# Altium schematic symbol library texas.SCHLIB: 169 symbols (part 3 of 5)
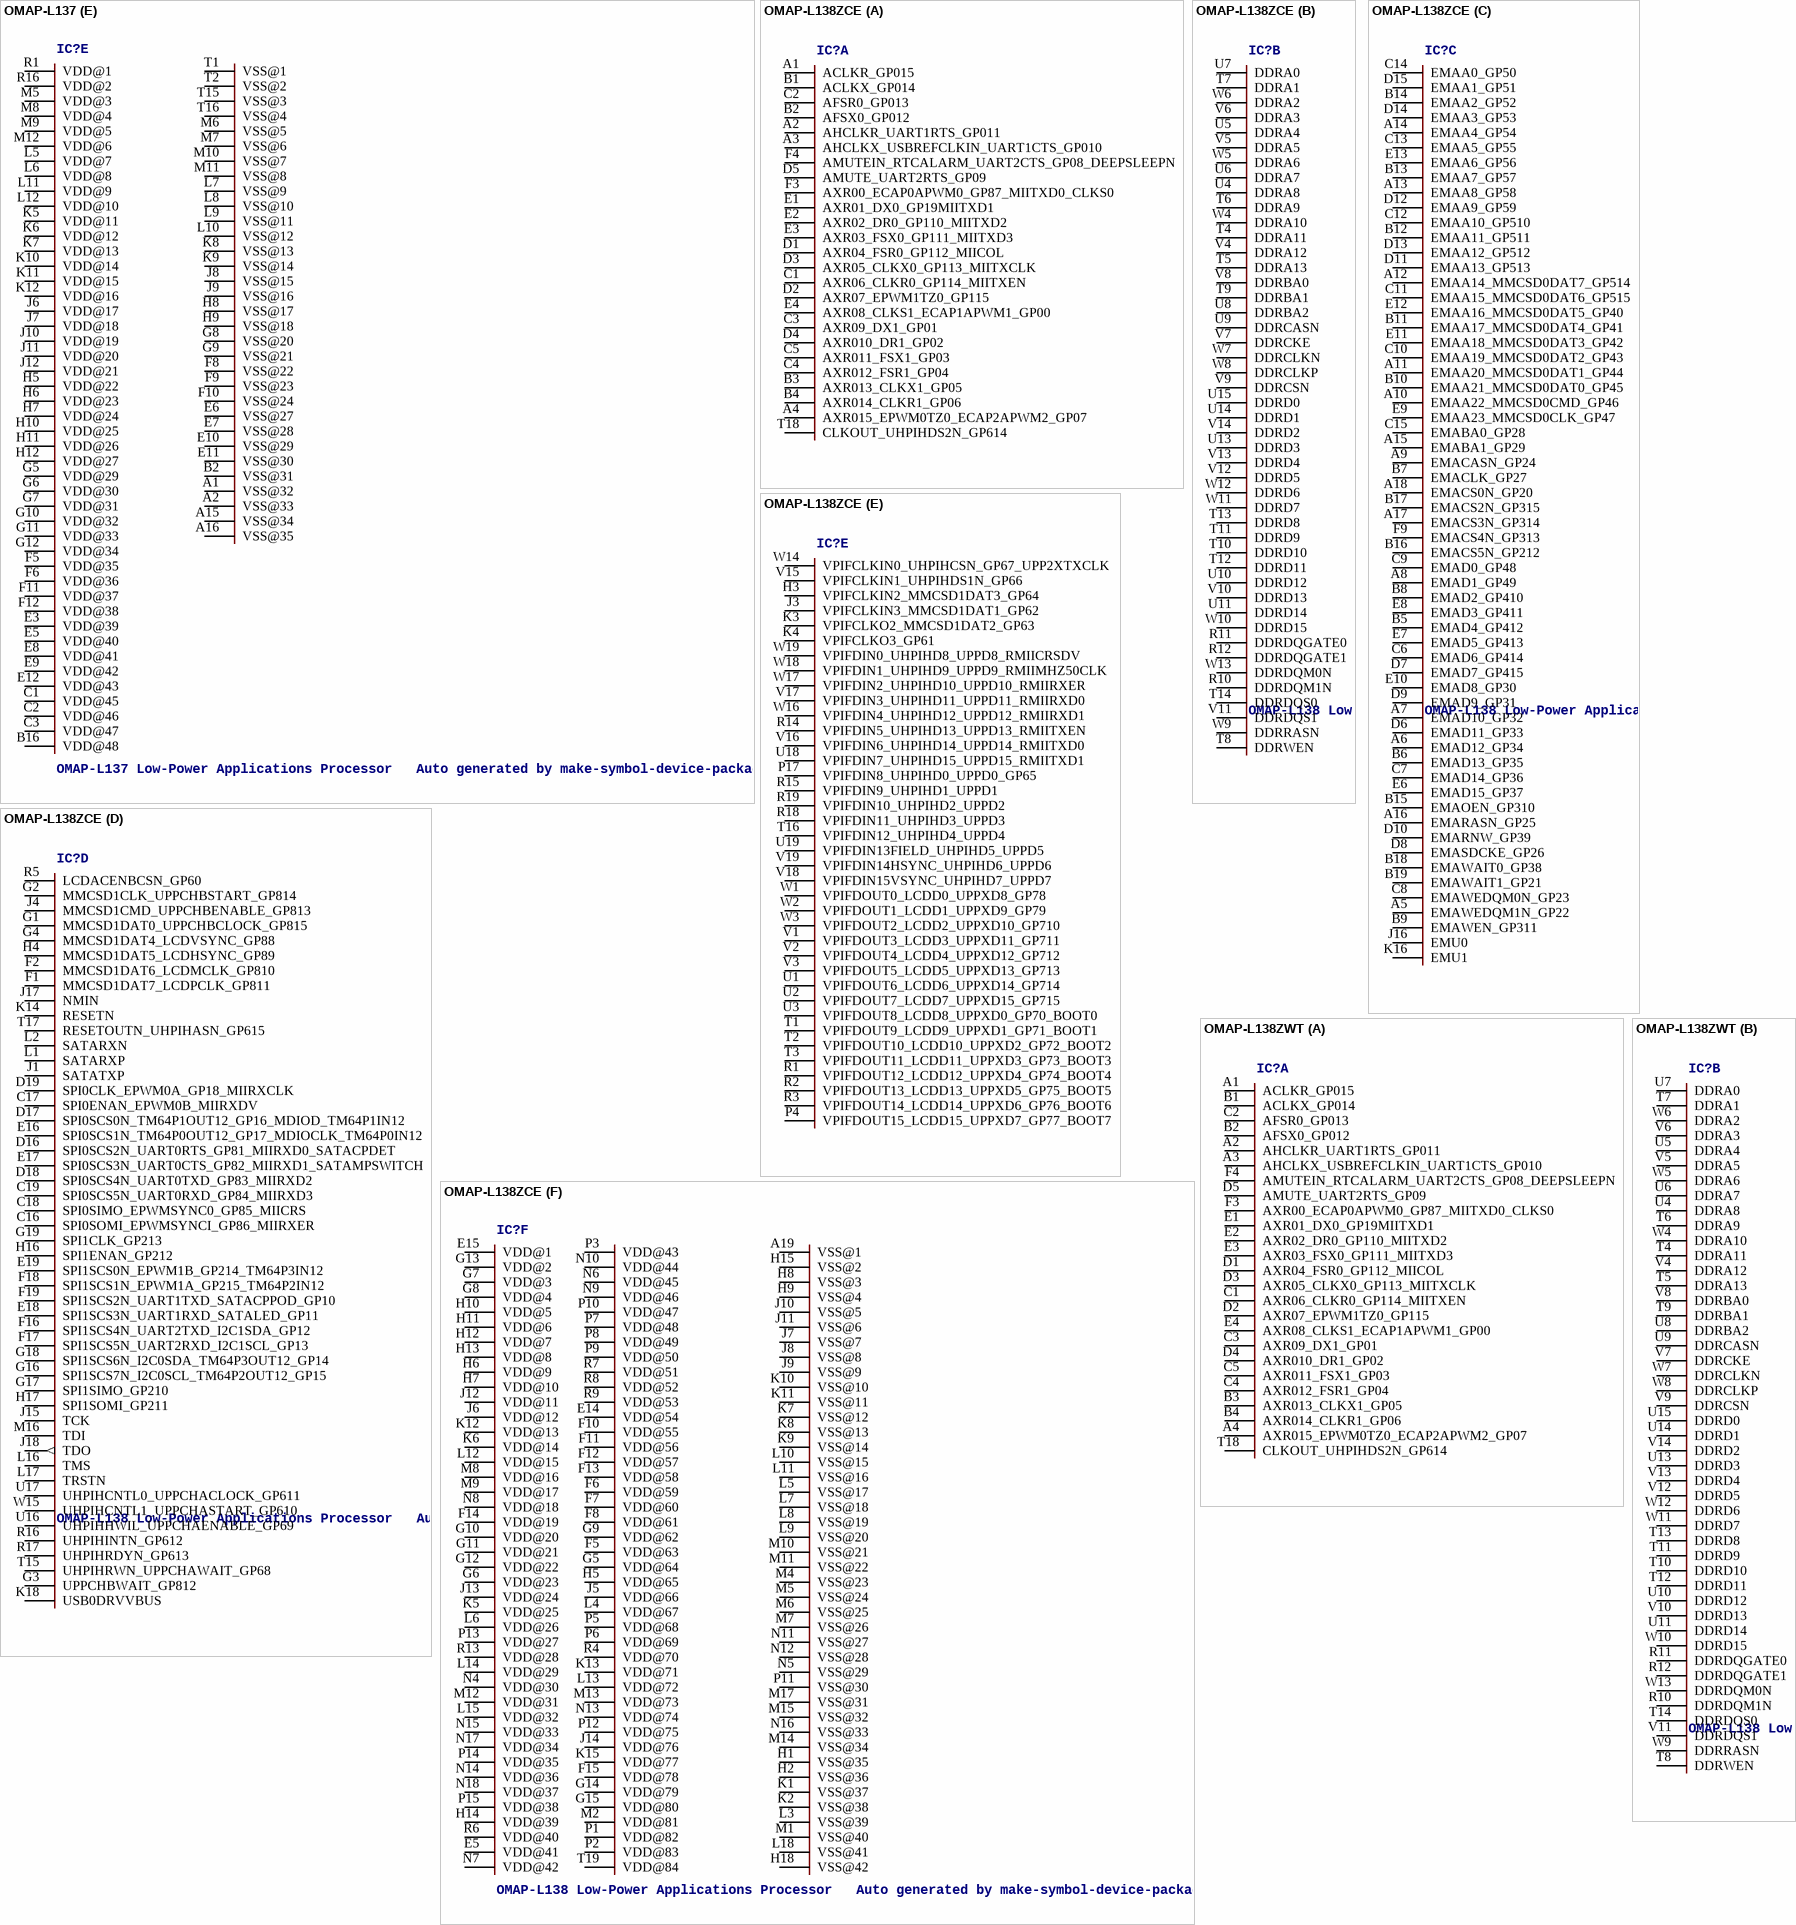
[diagram p33: symbols OMAP-L137 to OMAP-L138ZWT]

## OMAP-L138ZCE
designator IC?, comment OMAP-L138 Low-Power Applications Processor   Auto generated by make-symbol-device-package-bsdl.ulp Rev. 30 Source: sprm377a.bsm http://focus.ti.com/lit/ds/symlink/omap-l138.pdf Connect-List generated from OMAPL138ZCE.DEV Variant '' with connect-device-split-symbol-03.ulp
OC_FARNELL: unknown; OC_NEWARK: unknown
footprint ZCE_S-PBGA-N361
part A pins: A1 ACLKR_GP015, A2 AHCLKR_UART1RTS_GP011, A3 AHCLKX_USBREFCLKIN_UART1CTS_GP010, A4 AXR015_EPWM0TZ0_ECAP2APWM2_GP07, B1 ACLKX_GP014, B2 AFSX0_GP012, B3 AXR013_CLKX1_GP05, B4 AXR014_CLKR1_GP06, C1 AXR06_CLKR0_GP114_MIITXEN, C2 AFSR0_GP013, C3 AXR09_DX1_GP01, C4 AXR012_FSR1_GP04, C5 AXR011_FSX1_GP03, D1 AXR04_FSR0_GP112_MIICOL, D2 AXR07_EPWM1TZ0_GP115, D3 AXR05_CLKX0_GP113_MIITXCLK, D4 AXR010_DR1_GP02, D5 AMUTE_UART2RTS_GP09, E1 AXR01_DX0_GP19MIITXD1, E2 AXR02_DR0_GP110_MIITXD2, E3 AXR03_FSX0_GP111_MIITXD3, E4 AXR08_CLKS1_ECAP1APWM1_GP00, F3 AXR00_ECAP0APWM0_GP87_MIITXD0_CLKS0, F4 AMUTEIN_RTCALARM_UART2CTS_GP08_DEEPSLEEPN, T18 CLKOUT_UHPIHDS2N_GP614
part B pins: R10 DDRDQM1N, R11 DDRDQGATE0, R12 DDRDQGATE1, T4 DDRA11, T5 DDRA13, T6 DDRA9, T7 DDRA1, T8 DDRWEN, T9 DDRBA1, T10 DDRD10, T11 DDRD9, T12 DDRD11, T13 DDRD8, T14 DDRDQS0, U4 DDRA8, U5 DDRA4, U6 DDRA7, U7 DDRA0, U8 DDRBA2, U9 DDRCASN, U10 DDRD12, U11 DDRD14, U13 DDRD3, U14 DDRD1, U15 DDRD0, V4 DDRA12, V5 DDRA5, V6 DDRA3, V7 DDRCKE, V8 DDRBA0, V9 DDRCSN, V10 DDRD13, V11 DDRDQS1, V12 DDRD5, V13 DDRD4, V14 DDRD2, W4 DDRA10, W5 DDRA6, W6 DDRA2, W7 DDRCLKN, W8 DDRCLKP, W9 DDRRASN, W10 DDRD15, W11 DDRD7, W12 DDRD6, W13 DDRDQM0N
part C pins: A5 EMAWEDQM1N_GP22, A6 EMAD12_GP34, A7 EMAD10_GP32, A8 EMAD1_GP49, A9 EMACASN_GP24, A10 EMAA22_MMCSD0CMD_GP46, A11 EMAA20_MMCSD0DAT1_GP44, A12 EMAA14_MMCSD0DAT7_GP514, A13 EMAA8_GP58, A14 EMAA4_GP54, A15 EMABA1_GP29, A16 EMARASN_GP25, A17 EMACS3N_GP314, A18 EMACS0N_GP20, B5 EMAD4_GP412, B6 EMAD13_GP35, B7 EMACLK_GP27, B8 EMAD2_GP410, B9 EMAWEN_GP311, B10 EMAA21_MMCSD0DAT0_GP45, B11 EMAA17_MMCSD0DAT4_GP41, B12 EMAA11_GP511, B13 EMAA7_GP57, B14 EMAA2_GP52, B15 EMAOEN_GP310, B16 EMACS5N_GP212, B17 EMACS2N_GP315, B18 EMAWAIT0_GP38, B19 EMAWAIT1_GP21, C6 EMAD6_GP414, C7 EMAD14_GP36, C8 EMAWEDQM0N_GP23, C9 EMAD0_GP48, C10 EMAA19_MMCSD0DAT2_GP43, C11 EMAA15_MMCSD0DAT6_GP515, C12 EMAA10_GP510, C13 EMAA5_GP55, C14 EMAA0_GP50, C15 EMABA0_GP28, D6 EMAD11_GP33, D7 EMAD7_GP415, D8 EMASDCKE_GP26, D9 EMAD9_GP31, D10 EMARNW_GP39, D11 EMAA13_GP513, D12 EMAA9_GP59, D13 EMAA12_GP512, D14 EMAA3_GP53, D15 EMAA1_GP51, E6 EMAD15_GP37, E7 EMAD5_GP413, E8 EMAD3_GP411, E9 EMAA23_MMCSD0CLK_GP47, E10 EMAD8_GP30, E11 EMAA18_MMCSD0DAT3_GP42, E12 EMAA16_MMCSD0DAT5_GP40, E13 EMAA6_GP56, F9 EMACS4N_GP313, J16 EMU0, K16 EMU1
part D pins: C16 SPI0SOMI_EPWMSYNCI_GP86_MIIRXER, C17 SPI0ENAN_EPWM0B_MIIRXDV, C18 SPI0SIMO_EPWMSYNC0_GP85_MIICRS, C19 SPI0SCS5N_UART0RXD_GP84_MIIRXD3, D16 SPI0SCS2N_UART0RTS_GP81_MIIRXD0_SATACPDET, D17 SPI0SCS0N_TM64P1OUT12_GP16_MDIOD_TM64P1IN12, D18 SPI0SCS4N_UART0TXD_GP83_MIIRXD2, D19 SPI0CLK_EPWM0A_GP18_MIIRXCLK, E16 SPI0SCS1N_TM64P0OUT12_GP17_MDIOCLK_TM64P0IN12, E17 SPI0SCS3N_UART0CTS_GP82_MIIRXD1_SATAMPSWITCH, E18 SPI1SCS3N_UART1RXD_SATALED_GP11, E19 SPI1SCS0N_EPWM1B_GP214_TM64P3IN12, F1 MMCSD1DAT7_LCDPCLK_GP811, F2 MMCSD1DAT6_LCDMCLK_GP810, F16 SPI1SCS4N_UART2TXD_I2C1SDA_GP12, F17 SPI1SCS5N_UART2RXD_I2C1SCL_GP13, F18 SPI1SCS1N_EPWM1A_GP215_TM64P2IN12, F19 SPI1SCS2N_UART1TXD_SATACPPOD_GP10, G1 MMCSD1DAT0_UPPCHBCLOCK_GP815, G2 MMCSD1CLK_UPPCHBSTART_GP814, G3 UPPCHBWAIT_GP812, G4 MMCSD1DAT4_LCDVSYNC_GP88, G16 SPI1SCS7N_I2C0SCL_TM64P2OUT12_GP15, G17 SPI1SIMO_GP210, G18 SPI1SCS6N_I2C0SDA_TM64P3OUT12_GP14, G19 SPI1CLK_GP213, H4 MMCSD1DAT5_LCDHSYNC_GP89, H16 SPI1ENAN_GP212, H17 SPI1SOMI_GP211, J1 SATATXP (hiz), J4 MMCSD1CMD_UPPCHBENABLE_GP813, J15 TCK, J17 NMIN, J18 TDO (out), K14 RESETN, K18 USB0DRVVBUS, L1 SATARXP, L2 SATARXN, L16 TMS, L17 TRSTN, M16 TDI, R5 LCDACENBCSN_GP60, R16 UHPIHINTN_GP612, R17 UHPIHRDYN_GP613, T15 UHPIHRWN_UPPCHAWAIT_GP68, T17 RESETOUTN_UHPIHASN_GP615, U16 UHPIHHWIL_UPPCHAENABLE_GP69, U17 UHPIHCNTL0_UPPCHACLOCK_GP611, W15 UHPIHCNTL1_UPPCHASTART_GP610
part E pins: H3 VPIFCLKIN2_MMCSD1DAT3_GP64, J3 VPIFCLKIN3_MMCSD1DAT1_GP62, K3 VPIFCLKO2_MMCSD1DAT2_GP63, K4 VPIFCLKO3_GP61, P4 VPIFDOUT15_LCDD15_UPPXD7_GP77_BOOT7, P17 VPIFDIN8_UHPIHD0_UPPD0_GP65, R1 VPIFDOUT12_LCDD12_UPPXD4_GP74_BOOT4, R2 VPIFDOUT13_LCDD13_UPPXD5_GP75_BOOT5, R3 VPIFDOUT14_LCDD14_UPPXD6_GP76_BOOT6, R14 VPIFDIN5_UHPIHD13_UPPD13_RMIITXEN, R15 VPIFDIN9_UHPIHD1_UPPD1, R18 VPIFDIN11_UHPIHD3_UPPD3, R19 VPIFDIN10_UHPIHD2_UPPD2, T1 VPIFDOUT9_LCDD9_UPPXD1_GP71_BOOT1, T2 VPIFDOUT10_LCDD10_UPPXD2_GP72_BOOT2, T3 VPIFDOUT11_LCDD11_UPPXD3_GP73_BOOT3, T16 VPIFDIN12_UHPIHD4_UPPD4, U1 VPIFDOUT6_LCDD6_UPPXD14_GP714, U2 VPIFDOUT7_LCDD7_UPPXD15_GP715, U3 VPIFDOUT8_LCDD8_UPPXD0_GP70_BOOT0, U18 VPIFDIN7_UHPIHD15_UPPD15_RMIITXD1, U19 VPIFDIN13FIELD_UHPIHD5_UPPD5, V1 VPIFDOUT3_LCDD3_UPPXD11_GP711, V2 VPIFDOUT4_LCDD4_UPPXD12_GP712, V3 VPIFDOUT5_LCDD5_UPPXD13_GP713, V15 VPIFCLKIN1_UHPIHDS1N_GP66, V16 VPIFDIN6_UHPIHD14_UPPD14_RMIITXD0, V17 VPIFDIN3_UHPIHD11_UPPD11_RMIIRXD0, V18 VPIFDIN15VSYNC_UHPIHD7_UPPD7, V19 VPIFDIN14HSYNC_UHPIHD6_UPPD6, W1 VPIFDOUT0_LCDD0_UPPXD8_GP78, W2 VPIFDOUT1_LCDD1_UPPXD9_GP79, W3 VPIFDOUT2_LCDD2_UPPXD10_GP710, W14 VPIFCLKIN0_UHPIHCSN_GP67_UPP2XTXCLK, W16 VPIFDIN4_UHPIHD12_UPPD12_RMIIRXD1, W17 VPIFDIN2_UHPIHD10_UPPD10_RMIIRXER, W18 VPIFDIN1_UHPIHD9_UPPD9_RMIIMHZ50CLK, W19 VPIFDIN0_UHPIHD8_UPPD8_RMIICRSDV
part F pins: A19 VSS@1 (power), E5 VDD@41 (power), E14 VDD@54 (power), E15 VDD@1 (power), F5 VDD@63 (power), F6 VDD@59 (power), F7 VDD@60 (power), F8 VDD@61 (power), F10 VDD@55 (power), F11 VDD@56 (power), F12 VDD@57 (power), F13 VDD@58 (power), F14 VDD@19 (power), F15 VDD@78 (power), G5 VDD@64 (power), G6 VDD@23 (power), G7 VDD@3 (power), G8 VDD@4 (power), G9 VDD@62 (power), G10 VDD@20 (power), G11 VDD@21 (power), G12 VDD@22 (power), G13 VDD@2 (power), G14 VDD@79 (power), G15 VDD@80 (power), H1 VSS@35 (power), H2 VSS@36 (power), H5 VDD@65 (power), H6 VDD@9 (power), H7 VDD@10 (power), H8 VSS@3 (power), H9 VSS@4 (power), H10 VDD@5 (power), H11 VDD@6 (power), H12 VDD@7 (power), H13 VDD@8 (power), H14 VDD@39 (power), H15 VSS@2 (power), H18 VSS@42 (power), J5 VDD@66 (power), J6 VDD@12 (power), J7 VSS@7 (power), J8 VSS@8 (power), J9 VSS@9 (power), J10 VSS@5 (power), J11 VSS@6 (power), J12 VDD@11 (power), J13 VDD@24 (power), J14 VDD@76 (power), K1 VSS@37 (power), K2 VSS@38 (power), K5 VDD@25 (power), K6 VDD@14 (power), K7 VSS@12 (power), K8 VSS@13 (power), K9 VSS@14 (power), K10 VSS@10 (power), K11 VSS@11 (power), K12 VDD@13 (power), K13 VDD@71 (power), K15 VDD@77 (power), L3 VSS@39 (power), L4 VDD@67 (power), L5 VSS@17 (power), L6 VDD@26 (power), L7 VSS@18 (power), L8 VSS@19 (power), L9 VSS@20 (power), L10 VSS@15 (power), L11 VSS@16 (power), L12 VDD@15 (power), L13 VDD@72 (power), L14 VDD@29 (power), L15 VDD@32 (power), L18 VSS@41 (power), M1 VSS@40 (power), M2 VDD@81 (power), M4 VSS@23 (power), M5 VSS@24 (power), M6 VSS@25 (power), M7 VSS@26 (power), M8 VDD@16 (power), M9 VDD@17 (power), M10 VSS@21 (power), M11 VSS@22 (power), M12 VDD@31 (power), M13 VDD@73 (power), M14 VSS@34 (power), M15 VSS@32 (power), M17 VSS@31 (power), N4 VDD@30 (power), N5 VSS@29 (power), N6 VDD@45 (power), N7 VDD@42 (power), N8 VDD@18 (power), N9 VDD@46 (power), N10 VDD@44 (power), N11 VSS@27 (power), N12 VSS@28 (power), N13 VDD@74 (power), N14 VDD@36 (power), N15 VDD@33 (power), N16 VSS@33 (power), N17 VDD@34 (power), N18 VDD@37 (power), P1 VDD@82 (power), P2 VDD@83 (power), P3 VDD@43 (power), P5 VDD@68 (power), P6 VDD@69 (power), P7 VDD@48 (power), P8 VDD@49 (power), P9 VDD@50 (power), P10 VDD@47 (power), P11 VSS@30 (power), P12 VDD@75 (power), P13 VDD@27 (power), P14 VDD@35 (power), P15 VDD@38 (power), R4 VDD@70 (power), R6 VDD@40 (power), R7 VDD@51 (power), R8 VDD@52 (power), R9 VDD@53 (power), R13 VDD@28 (power), T19 VDD@84 (power)

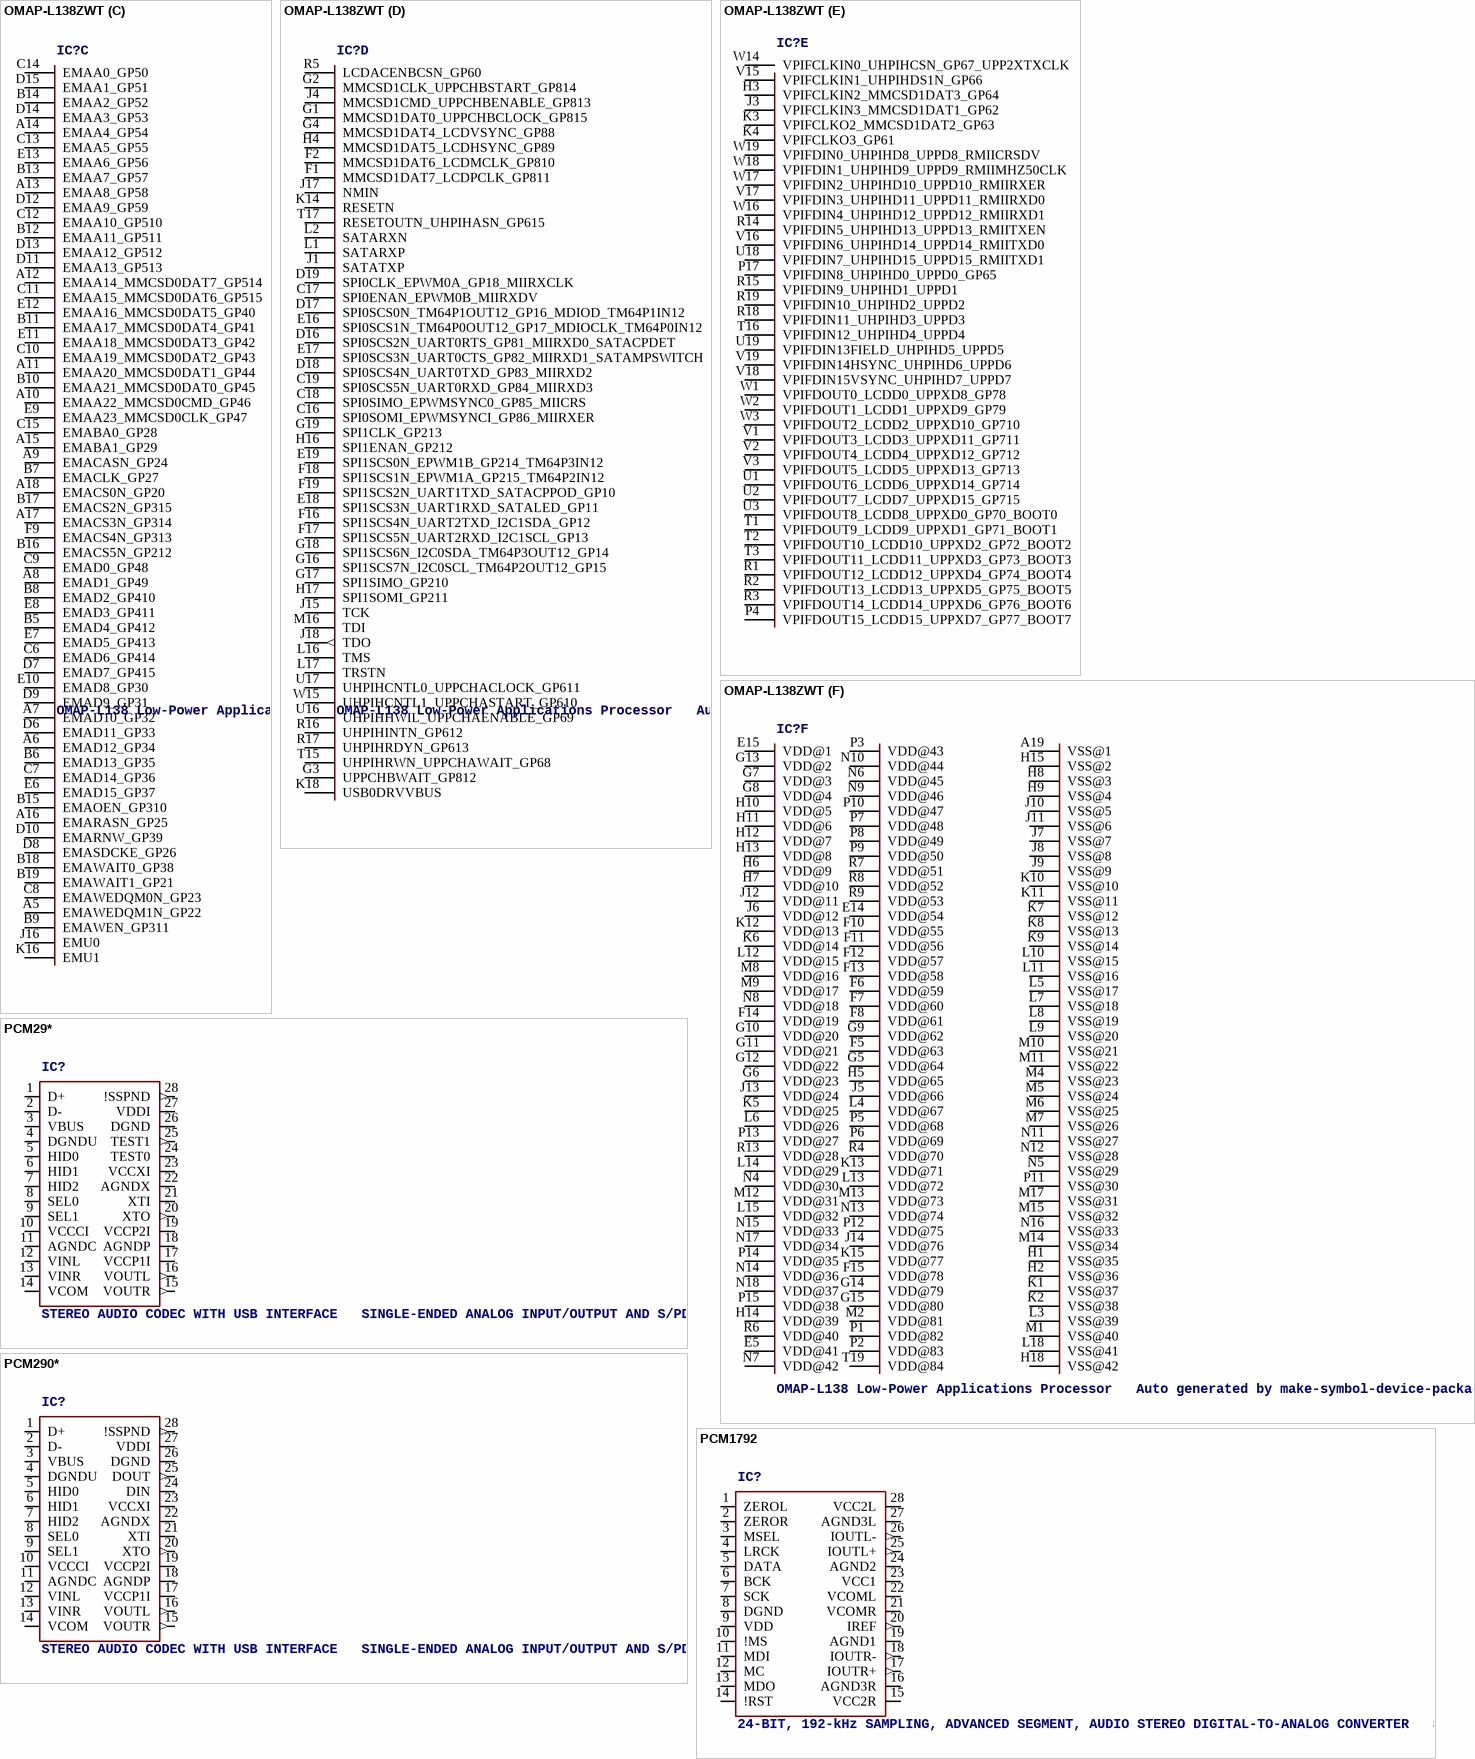
[diagram p16: symbols OMAP-L138ZWT to PCM1792]

## OMAP-L138ZWT
designator IC?, comment OMAP-L138 Low-Power Applications Processor   Auto generated by make-symbol-device-package-bsdl.ulp Rev. 30 Source: sprm376a.bsm http://focus.ti.com/lit/ds/symlink/omap-l138.pdf Connect-List generated from OMAPL138ZWT.DEV Variant '' with connect-device-split-symbol-03.ulp
OC_FARNELL: unknown; OC_NEWARK: unknown
footprint ZWT_S-PBGA-N361
part A pins: A1 ACLKR_GP015, A2 AHCLKR_UART1RTS_GP011, A3 AHCLKX_USBREFCLKIN_UART1CTS_GP010, A4 AXR015_EPWM0TZ0_ECAP2APWM2_GP07, B1 ACLKX_GP014, B2 AFSX0_GP012, B3 AXR013_CLKX1_GP05, B4 AXR014_CLKR1_GP06, C1 AXR06_CLKR0_GP114_MIITXEN, C2 AFSR0_GP013, C3 AXR09_DX1_GP01, C4 AXR012_FSR1_GP04, C5 AXR011_FSX1_GP03, D1 AXR04_FSR0_GP112_MIICOL, D2 AXR07_EPWM1TZ0_GP115, D3 AXR05_CLKX0_GP113_MIITXCLK, D4 AXR010_DR1_GP02, D5 AMUTE_UART2RTS_GP09, E1 AXR01_DX0_GP19MIITXD1, E2 AXR02_DR0_GP110_MIITXD2, E3 AXR03_FSX0_GP111_MIITXD3, E4 AXR08_CLKS1_ECAP1APWM1_GP00, F3 AXR00_ECAP0APWM0_GP87_MIITXD0_CLKS0, F4 AMUTEIN_RTCALARM_UART2CTS_GP08_DEEPSLEEPN, T18 CLKOUT_UHPIHDS2N_GP614
part B pins: R10 DDRDQM1N, R11 DDRDQGATE0, R12 DDRDQGATE1, T4 DDRA11, T5 DDRA13, T6 DDRA9, T7 DDRA1, T8 DDRWEN, T9 DDRBA1, T10 DDRD10, T11 DDRD9, T12 DDRD11, T13 DDRD8, T14 DDRDQS0, U4 DDRA8, U5 DDRA4, U6 DDRA7, U7 DDRA0, U8 DDRBA2, U9 DDRCASN, U10 DDRD12, U11 DDRD14, U13 DDRD3, U14 DDRD1, U15 DDRD0, V4 DDRA12, V5 DDRA5, V6 DDRA3, V7 DDRCKE, V8 DDRBA0, V9 DDRCSN, V10 DDRD13, V11 DDRDQS1, V12 DDRD5, V13 DDRD4, V14 DDRD2, W4 DDRA10, W5 DDRA6, W6 DDRA2, W7 DDRCLKN, W8 DDRCLKP, W9 DDRRASN, W10 DDRD15, W11 DDRD7, W12 DDRD6, W13 DDRDQM0N
part C pins: A5 EMAWEDQM1N_GP22, A6 EMAD12_GP34, A7 EMAD10_GP32, A8 EMAD1_GP49, A9 EMACASN_GP24, A10 EMAA22_MMCSD0CMD_GP46, A11 EMAA20_MMCSD0DAT1_GP44, A12 EMAA14_MMCSD0DAT7_GP514, A13 EMAA8_GP58, A14 EMAA4_GP54, A15 EMABA1_GP29, A16 EMARASN_GP25, A17 EMACS3N_GP314, A18 EMACS0N_GP20, B5 EMAD4_GP412, B6 EMAD13_GP35, B7 EMACLK_GP27, B8 EMAD2_GP410, B9 EMAWEN_GP311, B10 EMAA21_MMCSD0DAT0_GP45, B11 EMAA17_MMCSD0DAT4_GP41, B12 EMAA11_GP511, B13 EMAA7_GP57, B14 EMAA2_GP52, B15 EMAOEN_GP310, B16 EMACS5N_GP212, B17 EMACS2N_GP315, B18 EMAWAIT0_GP38, B19 EMAWAIT1_GP21, C6 EMAD6_GP414, C7 EMAD14_GP36, C8 EMAWEDQM0N_GP23, C9 EMAD0_GP48, C10 EMAA19_MMCSD0DAT2_GP43, C11 EMAA15_MMCSD0DAT6_GP515, C12 EMAA10_GP510, C13 EMAA5_GP55, C14 EMAA0_GP50, C15 EMABA0_GP28, D6 EMAD11_GP33, D7 EMAD7_GP415, D8 EMASDCKE_GP26, D9 EMAD9_GP31, D10 EMARNW_GP39, D11 EMAA13_GP513, D12 EMAA9_GP59, D13 EMAA12_GP512, D14 EMAA3_GP53, D15 EMAA1_GP51, E6 EMAD15_GP37, E7 EMAD5_GP413, E8 EMAD3_GP411, E9 EMAA23_MMCSD0CLK_GP47, E10 EMAD8_GP30, E11 EMAA18_MMCSD0DAT3_GP42, E12 EMAA16_MMCSD0DAT5_GP40, E13 EMAA6_GP56, F9 EMACS4N_GP313, J16 EMU0, K16 EMU1
part D pins: C16 SPI0SOMI_EPWMSYNCI_GP86_MIIRXER, C17 SPI0ENAN_EPWM0B_MIIRXDV, C18 SPI0SIMO_EPWMSYNC0_GP85_MIICRS, C19 SPI0SCS5N_UART0RXD_GP84_MIIRXD3, D16 SPI0SCS2N_UART0RTS_GP81_MIIRXD0_SATACPDET, D17 SPI0SCS0N_TM64P1OUT12_GP16_MDIOD_TM64P1IN12, D18 SPI0SCS4N_UART0TXD_GP83_MIIRXD2, D19 SPI0CLK_EPWM0A_GP18_MIIRXCLK, E16 SPI0SCS1N_TM64P0OUT12_GP17_MDIOCLK_TM64P0IN12, E17 SPI0SCS3N_UART0CTS_GP82_MIIRXD1_SATAMPSWITCH, E18 SPI1SCS3N_UART1RXD_SATALED_GP11, E19 SPI1SCS0N_EPWM1B_GP214_TM64P3IN12, F1 MMCSD1DAT7_LCDPCLK_GP811, F2 MMCSD1DAT6_LCDMCLK_GP810, F16 SPI1SCS4N_UART2TXD_I2C1SDA_GP12, F17 SPI1SCS5N_UART2RXD_I2C1SCL_GP13, F18 SPI1SCS1N_EPWM1A_GP215_TM64P2IN12, F19 SPI1SCS2N_UART1TXD_SATACPPOD_GP10, G1 MMCSD1DAT0_UPPCHBCLOCK_GP815, G2 MMCSD1CLK_UPPCHBSTART_GP814, G3 UPPCHBWAIT_GP812, G4 MMCSD1DAT4_LCDVSYNC_GP88, G16 SPI1SCS7N_I2C0SCL_TM64P2OUT12_GP15, G17 SPI1SIMO_GP210, G18 SPI1SCS6N_I2C0SDA_TM64P3OUT12_GP14, G19 SPI1CLK_GP213, H4 MMCSD1DAT5_LCDHSYNC_GP89, H16 SPI1ENAN_GP212, H17 SPI1SOMI_GP211, J1 SATATXP (hiz), J4 MMCSD1CMD_UPPCHBENABLE_GP813, J15 TCK, J17 NMIN, J18 TDO (out), K14 RESETN, K18 USB0DRVVBUS, L1 SATARXP, L2 SATARXN, L16 TMS, L17 TRSTN, M16 TDI, R5 LCDACENBCSN_GP60, R16 UHPIHINTN_GP612, R17 UHPIHRDYN_GP613, T15 UHPIHRWN_UPPCHAWAIT_GP68, T17 RESETOUTN_UHPIHASN_GP615, U16 UHPIHHWIL_UPPCHAENABLE_GP69, U17 UHPIHCNTL0_UPPCHACLOCK_GP611, W15 UHPIHCNTL1_UPPCHASTART_GP610
part E pins: H3 VPIFCLKIN2_MMCSD1DAT3_GP64, J3 VPIFCLKIN3_MMCSD1DAT1_GP62, K3 VPIFCLKO2_MMCSD1DAT2_GP63, K4 VPIFCLKO3_GP61, P4 VPIFDOUT15_LCDD15_UPPXD7_GP77_BOOT7, P17 VPIFDIN8_UHPIHD0_UPPD0_GP65, R1 VPIFDOUT12_LCDD12_UPPXD4_GP74_BOOT4, R2 VPIFDOUT13_LCDD13_UPPXD5_GP75_BOOT5, R3 VPIFDOUT14_LCDD14_UPPXD6_GP76_BOOT6, R14 VPIFDIN5_UHPIHD13_UPPD13_RMIITXEN, R15 VPIFDIN9_UHPIHD1_UPPD1, R18 VPIFDIN11_UHPIHD3_UPPD3, R19 VPIFDIN10_UHPIHD2_UPPD2, T1 VPIFDOUT9_LCDD9_UPPXD1_GP71_BOOT1, T2 VPIFDOUT10_LCDD10_UPPXD2_GP72_BOOT2, T3 VPIFDOUT11_LCDD11_UPPXD3_GP73_BOOT3, T16 VPIFDIN12_UHPIHD4_UPPD4, U1 VPIFDOUT6_LCDD6_UPPXD14_GP714, U2 VPIFDOUT7_LCDD7_UPPXD15_GP715, U3 VPIFDOUT8_LCDD8_UPPXD0_GP70_BOOT0, U18 VPIFDIN7_UHPIHD15_UPPD15_RMIITXD1, U19 VPIFDIN13FIELD_UHPIHD5_UPPD5, V1 VPIFDOUT3_LCDD3_UPPXD11_GP711, V2 VPIFDOUT4_LCDD4_UPPXD12_GP712, V3 VPIFDOUT5_LCDD5_UPPXD13_GP713, V15 VPIFCLKIN1_UHPIHDS1N_GP66, V16 VPIFDIN6_UHPIHD14_UPPD14_RMIITXD0, V17 VPIFDIN3_UHPIHD11_UPPD11_RMIIRXD0, V18 VPIFDIN15VSYNC_UHPIHD7_UPPD7, V19 VPIFDIN14HSYNC_UHPIHD6_UPPD6, W1 VPIFDOUT0_LCDD0_UPPXD8_GP78, W2 VPIFDOUT1_LCDD1_UPPXD9_GP79, W3 VPIFDOUT2_LCDD2_UPPXD10_GP710, W14 VPIFCLKIN0_UHPIHCSN_GP67_UPP2XTXCLK, W16 VPIFDIN4_UHPIHD12_UPPD12_RMIIRXD1, W17 VPIFDIN2_UHPIHD10_UPPD10_RMIIRXER, W18 VPIFDIN1_UHPIHD9_UPPD9_RMIIMHZ50CLK, W19 VPIFDIN0_UHPIHD8_UPPD8_RMIICRSDV
part F pins: A19 VSS@1 (power), E5 VDD@41 (power), E14 VDD@54 (power), E15 VDD@1 (power), F5 VDD@63 (power), F6 VDD@59 (power), F7 VDD@60 (power), F8 VDD@61 (power), F10 VDD@55 (power), F11 VDD@56 (power), F12 VDD@57 (power), F13 VDD@58 (power), F14 VDD@19 (power), F15 VDD@78 (power), G5 VDD@64 (power), G6 VDD@23 (power), G7 VDD@3 (power), G8 VDD@4 (power), G9 VDD@62 (power), G10 VDD@20 (power), G11 VDD@21 (power), G12 VDD@22 (power), G13 VDD@2 (power), G14 VDD@79 (power), G15 VDD@80 (power), H1 VSS@35 (power), H2 VSS@36 (power), H5 VDD@65 (power), H6 VDD@9 (power), H7 VDD@10 (power), H8 VSS@3 (power), H9 VSS@4 (power), H10 VDD@5 (power), H11 VDD@6 (power), H12 VDD@7 (power), H13 VDD@8 (power), H14 VDD@39 (power), H15 VSS@2 (power), H18 VSS@42 (power), J5 VDD@66 (power), J6 VDD@12 (power), J7 VSS@7 (power), J8 VSS@8 (power), J9 VSS@9 (power), J10 VSS@5 (power), J11 VSS@6 (power), J12 VDD@11 (power), J13 VDD@24 (power), J14 VDD@76 (power), K1 VSS@37 (power), K2 VSS@38 (power), K5 VDD@25 (power), K6 VDD@14 (power), K7 VSS@12 (power), K8 VSS@13 (power), K9 VSS@14 (power), K10 VSS@10 (power), K11 VSS@11 (power), K12 VDD@13 (power), K13 VDD@71 (power), K15 VDD@77 (power), L3 VSS@39 (power), L4 VDD@67 (power), L5 VSS@17 (power), L6 VDD@26 (power), L7 VSS@18 (power), L8 VSS@19 (power), L9 VSS@20 (power), L10 VSS@15 (power), L11 VSS@16 (power), L12 VDD@15 (power), L13 VDD@72 (power), L14 VDD@29 (power), L15 VDD@32 (power), L18 VSS@41 (power), M1 VSS@40 (power), M2 VDD@81 (power), M4 VSS@23 (power), M5 VSS@24 (power), M6 VSS@25 (power), M7 VSS@26 (power), M8 VDD@16 (power), M9 VDD@17 (power), M10 VSS@21 (power), M11 VSS@22 (power), M12 VDD@31 (power), M13 VDD@73 (power), M14 VSS@34 (power), M15 VSS@32 (power), M17 VSS@31 (power), N4 VDD@30 (power), N5 VSS@29 (power), N6 VDD@45 (power), N7 VDD@42 (power), N8 VDD@18 (power), N9 VDD@46 (power), N10 VDD@44 (power), N11 VSS@27 (power), N12 VSS@28 (power), N13 VDD@74 (power), N14 VDD@36 (power), N15 VDD@33 (power), N16 VSS@33 (power), N17 VDD@34 (power), N18 VDD@37 (power), P1 VDD@82 (power), P2 VDD@83 (power), P3 VDD@43 (power), P5 VDD@68 (power), P6 VDD@69 (power), P7 VDD@48 (power), P8 VDD@49 (power), P9 VDD@50 (power), P10 VDD@47 (power), P11 VSS@30 (power), P12 VDD@75 (power), P13 VDD@27 (power), P14 VDD@35 (power), P15 VDD@38 (power), R4 VDD@70 (power), R6 VDD@40 (power), R7 VDD@51 (power), R8 VDD@52 (power), R9 VDD@53 (power), R13 VDD@28 (power), T19 VDD@84 (power)

## PCM29*
designator IC?, comment STEREO AUDIO CODEC WITH USB INTERFACE   SINGLE-ENDED ANALOG INPUT/OUTPUT AND S/PDIF
MPN: PCM2900E; MPN: PCM2904DB; MF: TEXAS INSTRUMENTS; MF: TEXAS INSTRUMENT CONNECTORS; OC_FARNELL: 1207086; OC_NEWARK: 75C5376; OC_FARNELL: 1207091; OC_NEWARK: 75C5386
footprint SSOP28DB
pins: 1 D+, 2 D-, 3 VBUS (power), 4 DGNDU (power), 5 HID0, 6 HID1, 7 HID2, 8 SEL0, 9 SEL1, 10 VCCCI (power), 11 AGNDC (power), 12 VINL, 13 VINR, 14 VCOM (power), 15 VOUTR (out), 16 VOUTL (out), 17 VCCP1I, 18 AGNDP (power), 19 VCCP2I (power), 20 XTO (out), 21 XTI, 22 AGNDX (power), 23 VCCXI (power), 24 TEST0, 25 TEST1 (out), 26 DGND (power), 27 VDDI (power), 28 !SSPND (out)

## PCM290*
designator IC?, comment STEREO AUDIO CODEC WITH USB INTERFACE   SINGLE-ENDED ANALOG INPUT/OUTPUT AND S/PDIF
MPN: PCM2902E; MPN: PCM2906DB; MF: TEXAS INSTRUMENT CONNECTORS; OC_FARNELL: 1207089; OC_NEWARK: 75C5380; OC_FARNELL: unknown; OC_NEWARK: 83C7389
footprint SSOP28DB
pins: 1 D+, 2 D-, 3 VBUS (power), 4 DGNDU (power), 5 HID0, 6 HID1, 7 HID2, 8 SEL0, 9 SEL1, 10 VCCCI (power), 11 AGNDC (power), 12 VINL, 13 VINR, 14 VCOM (power), 15 VOUTR (out), 16 VOUTL (out), 17 VCCP1I, 18 AGNDP (power), 19 VCCP2I (power), 20 XTO (out), 21 XTI, 22 AGNDX (power), 23 VCCXI (power), 24 DIN, 25 DOUT (out), 26 DGND (power), 27 VDDI (power), 28 !SSPND (out)

## PCM1792
designator IC?, comment 24-BIT, 192-kHz SAMPLING, ADVANCED SEGMENT, AUDIO STEREO DIGITAL-TO-ANALOG CONVERTER   Source: http://focus.ti.com/lit/ds/symlink/pcm1792.pdf
MPN: PCM1792DB; MF: TEXAS INSTRUMENTS; OC_FARNELL: 1207081; OC_NEWARK: 61H5171
footprint DB_R-PDSO-G28
pins: 1 ZEROL, 2 ZEROR, 3 MSEL, 4 LRCK, 5 DATA, 6 BCK, 7 SCK, 8 DGND, 9 VDD, 10 !MS, 11 MDI, 12 MC, 13 MDO, 14 !RST, 15 VCC2R, 16 AGND3R, 17 IOUTR+ (out), 18 IOUTR- (out), 19 AGND1, 20 IREF (out), 21 VCOMR, 22 VCOML, 23 VCC1, 24 AGND2, 25 IOUTL+ (out), 26 IOUTL- (out), 27 AGND3L, 28 VCC2L

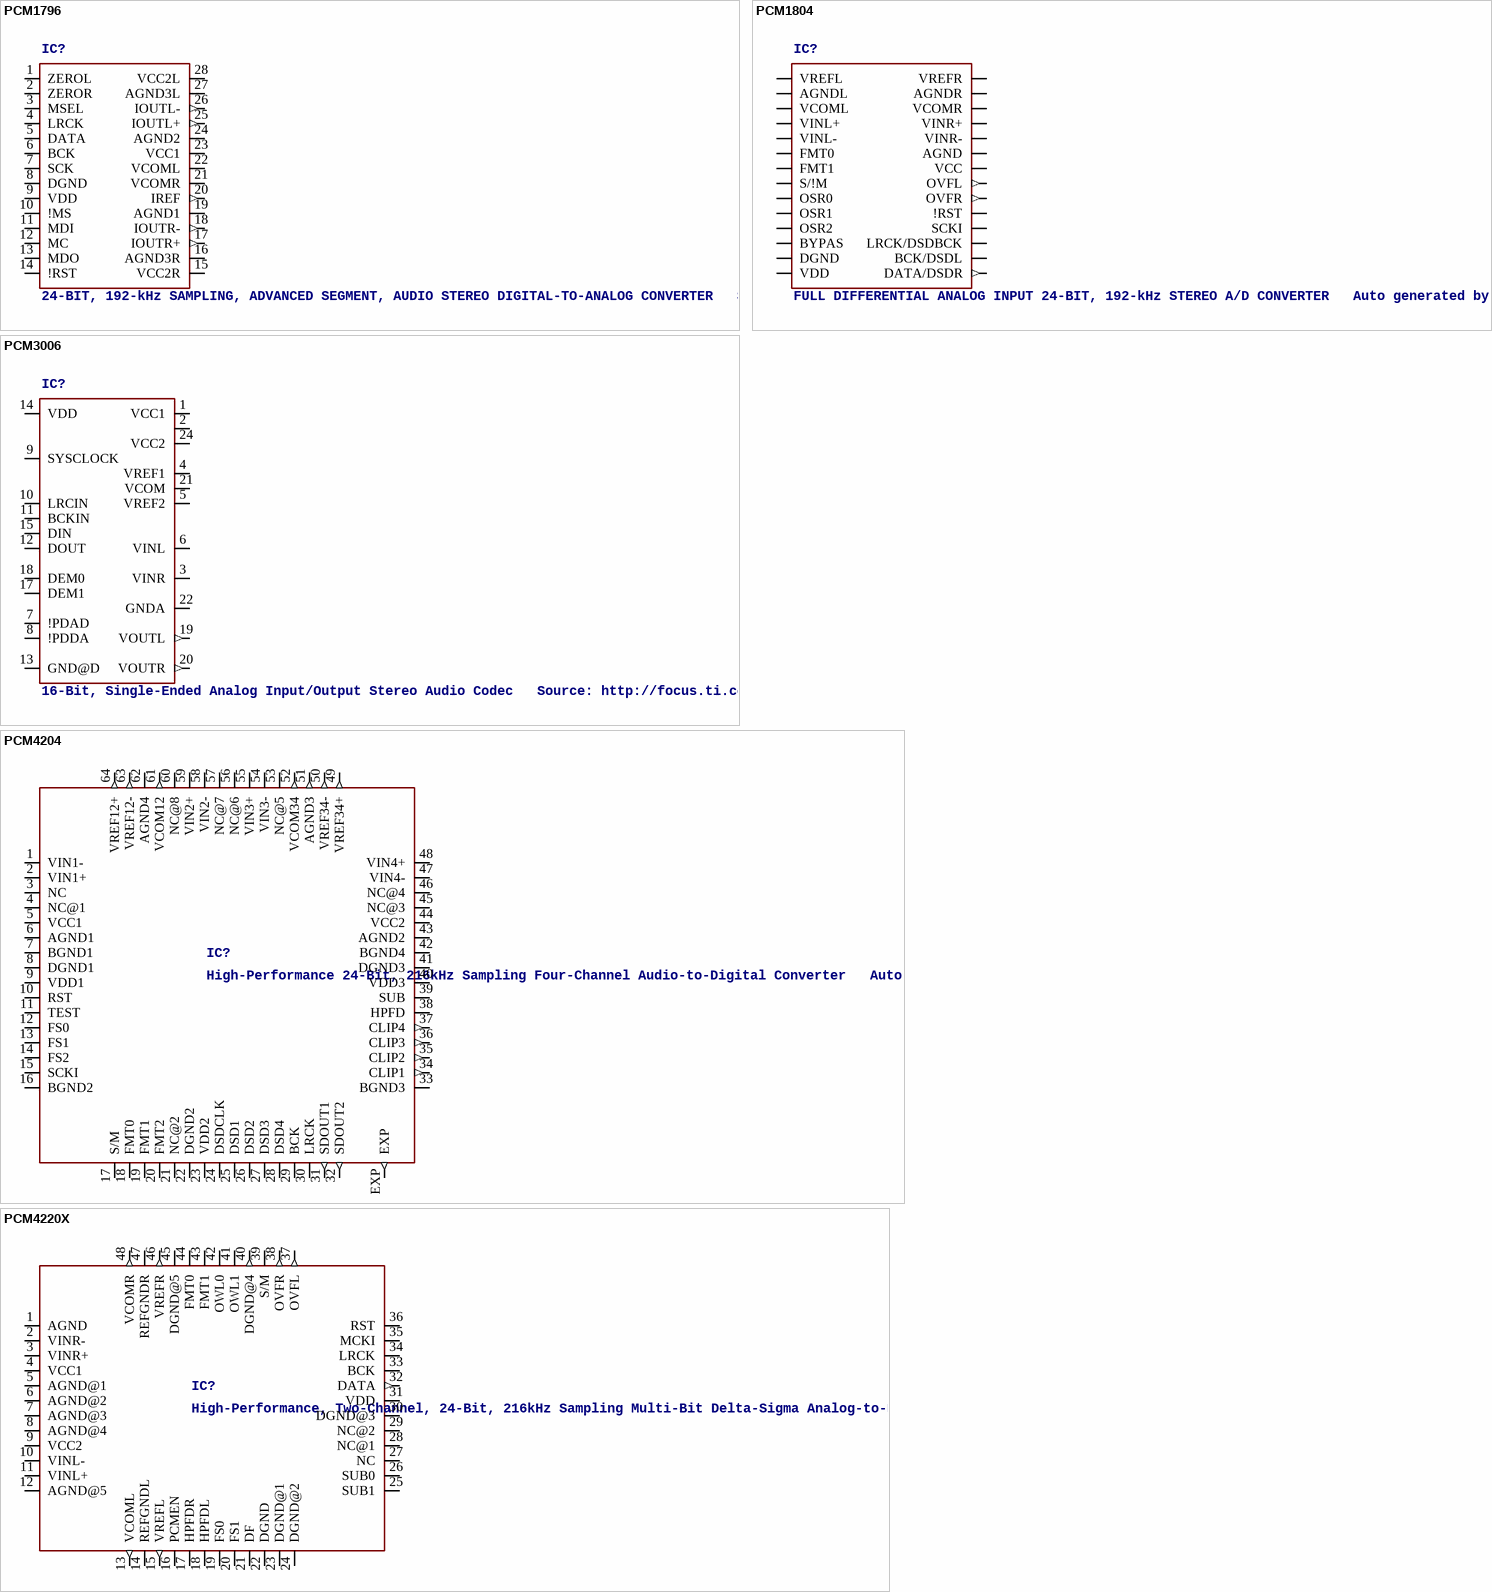
[diagram p17: symbols PCM1796 to PCM4220X]

## PCM1796
designator IC?, comment 24-BIT, 192-kHz SAMPLING, ADVANCED SEGMENT, AUDIO STEREO DIGITAL-TO-ANALOG CONVERTER   Source: http://focus.ti.com/lit/ds/symlink/pcm1796.pdf
MPN: PCM1796DB; MF: TEXAS INSTRUMENT CONNECTORS; OC_FARNELL: unknown; OC_NEWARK: 90H2298
footprint DB_R-PDSO-G28
pins: 1 ZEROL, 2 ZEROR, 3 MSEL, 4 LRCK, 5 DATA, 6 BCK, 7 SCK, 8 DGND, 9 VDD, 10 !MS, 11 MDI, 12 MC, 13 MDO, 14 !RST, 15 VCC2R, 16 AGND3R, 17 IOUTR+ (out), 18 IOUTR- (out), 19 AGND1, 20 IREF (out), 21 VCOMR, 22 VCOML, 23 VCC1, 24 AGND2, 25 IOUTL+ (out), 26 IOUTL- (out), 27 AGND3L, 28 VCC2L

## PCM1804
designator IC?, comment FULL DIFFERENTIAL ANALOG INPUT 24-BIT, 192-kHz STEREO A/D CONVERTER   Auto generated by make-symbol-device-package-bsdl.ulp Rev. 29 Source: http://focus.ti.com/lit/ds/symlink/pcm1804.pdf
MPN: PCM1804DB; MF: TEXAS INSTRUMENT CONNECTORS; OC_FARNELL: 1197425; OC_NEWARK: 36K7583
footprint DB_R-PDSO-G28
pins: 1 VREFL (power), 2 AGNDL (power), 3 VCOML (power), 4 VINL+, 5 VINL-, 6 FMT0, 7 FMT1, 8 S/!M, 9 OSR0, 10 OSR1, 11 OSR2, 12 BYPAS, 13 DGND (power), 14 VDD (power), 15 DATA/DSDR (out), 16 BCK/DSDL, 17 LRCK/DSDBCK, 18 SCKI, 19 !RST, 20 OVFR (out), 21 OVFL (out), 22 VCC (power), 23 AGND (power), 24 VINR-, 25 VINR+, 26 VCOMR (power), 27 AGNDR (power), 28 VREFR (power)

## PCM3006
designator IC?, comment 16-Bit, Single-Ended Analog Input/Output Stereo Audio Codec   Source: http://focus.ti.com/lit/ds/symlink/pcm3006.pdf
MPN: PCM3006T; MF: TEXAS INSTRUMENT CONNECTORS; OC_FARNELL: 1510088; OC_NEWARK: 75C5392
footprint R-PSOP-G24
pins: 1 VCC1 (power), 2 VCC1@1 (power), 3 VINR, 4 VREF1, 5 VREF2, 6 VINL, 7 !PDAD, 8 !PDDA, 9 SYSCLOCK, 10 LRCIN, 11 BCKIN, 12 DOUT, 13 GND@D (power), 14 VDD (power), 15 DIN, 17 DEM1, 18 DEM0, 19 VOUTL (out), 20 VOUTR (out), 21 VCOM (power), 22 GNDA (power), 24 VCC2 (power)

## PCM4204
designator IC?, comment High-Performance 24-Bit, 216kHz Sampling Four-Channel Audio-to-Digital Converter   Auto generated by make-symbol-device-package-bsdl.ulp Rev. 29 Source: http://focus.ti.com/lit/ds/symlink/pcm4204.pdf
MPN: PCM4204PAPT; MF: TEXAS INSTRUMENTS; OC_FARNELL: 9969098; OC_NEWARK: 43J9723
footprint PAP_S-PQFP-G64
pins: 1 VIN1-, 2 VIN1+, 3 NC, 4 NC@1, 5 VCC1 (power), 6 AGND1 (power), 7 BGND1 (power), 8 DGND1 (power), 9 VDD1 (power), 10 RST, 11 TEST, 12 FS0, 13 FS1, 14 FS2, 15 SCKI, 16 BGND2 (power), 17 S/M, 18 FMT0, 19 FMT1, 20 FMT2, 21 NC@2, 22 DGND2 (power), 23 VDD2 (power), 24 DSDCLK, 25 DSD1, 26 DSD2, 27 DSD3, 28 DSD4, 29 BCK, 30 LRCK, 31 SDOUT1 (out), 32 SDOUT2 (out), 33 BGND3 (power), 34 CLIP1 (out), 35 CLIP2 (out), 36 CLIP3 (out), 37 CLIP4 (out), 38 HPFD, 39 SUB, 40 VDD3 (power), 41 DGND3 (power), 42 BGND4 (power), 43 AGND2 (power), 44 VCC2 (power), 45 NC@3, 46 NC@4, 47 VIN4-, 48 VIN4+, 49 VREF34+ (out), 50 VREF34- (out), 51 AGND3 (out), 52 VCOM34 (out), 53 NC@5, 54 VIN3-, 55 VIN3+, 56 NC@6, 57 NC@7, 58 VIN2-, 59 VIN2+, 60 NC@8, 61 VCOM12 (out), 62 AGND4 (power), 63 VREF12- (out), 64 VREF12+ (out), EXP (out)

## PCM4220X
designator IC?, comment High-Performance, Two-Channel, 24-Bit, 216kHz Sampling Multi-Bit Delta-Sigma Analog-to-Digital Converter   Auto generated by make-symbol-device-package-bsdl.ulp Rev. 29 Source:http://focus.ti.com/lit/ds/symlink/pcm4220.pdf
MPN: PCM4220PFB; OC_FARNELL: 1754967; OC_NEWARK: 46M6821
footprint PFB_S-PQFP-G48
pins: 1 AGND (power), 2 VINR-, 3 VINR+, 4 VCC1 (power), 5 AGND@1 (power), 6 AGND@2 (power), 7 AGND@3 (power), 8 AGND@4 (power), 9 VCC2 (power), 10 VINL-, 11 VINL+, 12 AGND@5 (power), 13 VCOML (out), 14 REFGNDL (power), 15 VREFL (out), 16 PCMEN, 17 HPFDR, 18 HPFDL, 19 FS0, 20 FS1, 21 DF, 22 DGND (power), 23 DGND@1 (power), 24 DGND@2 (power), 25 SUB1, 26 SUB0, 27 NC, 28 NC@1, 29 NC@2, 30 DGND@3 (power), 31 VDD (power), 32 DATA (out), 33 BCK, 34 LRCK, 35 MCKI, 36 RST, 37 OVFL (out), 38 OVFR (out), 39 S/M, 40 DGND@4 (out), 41 OWL1, 42 OWL0, 43 FMT1, 44 FMT0, 45 DGND@5 (power), 46 VREFR (out), 47 REFGNDR (power), 48 VCOMR (out)

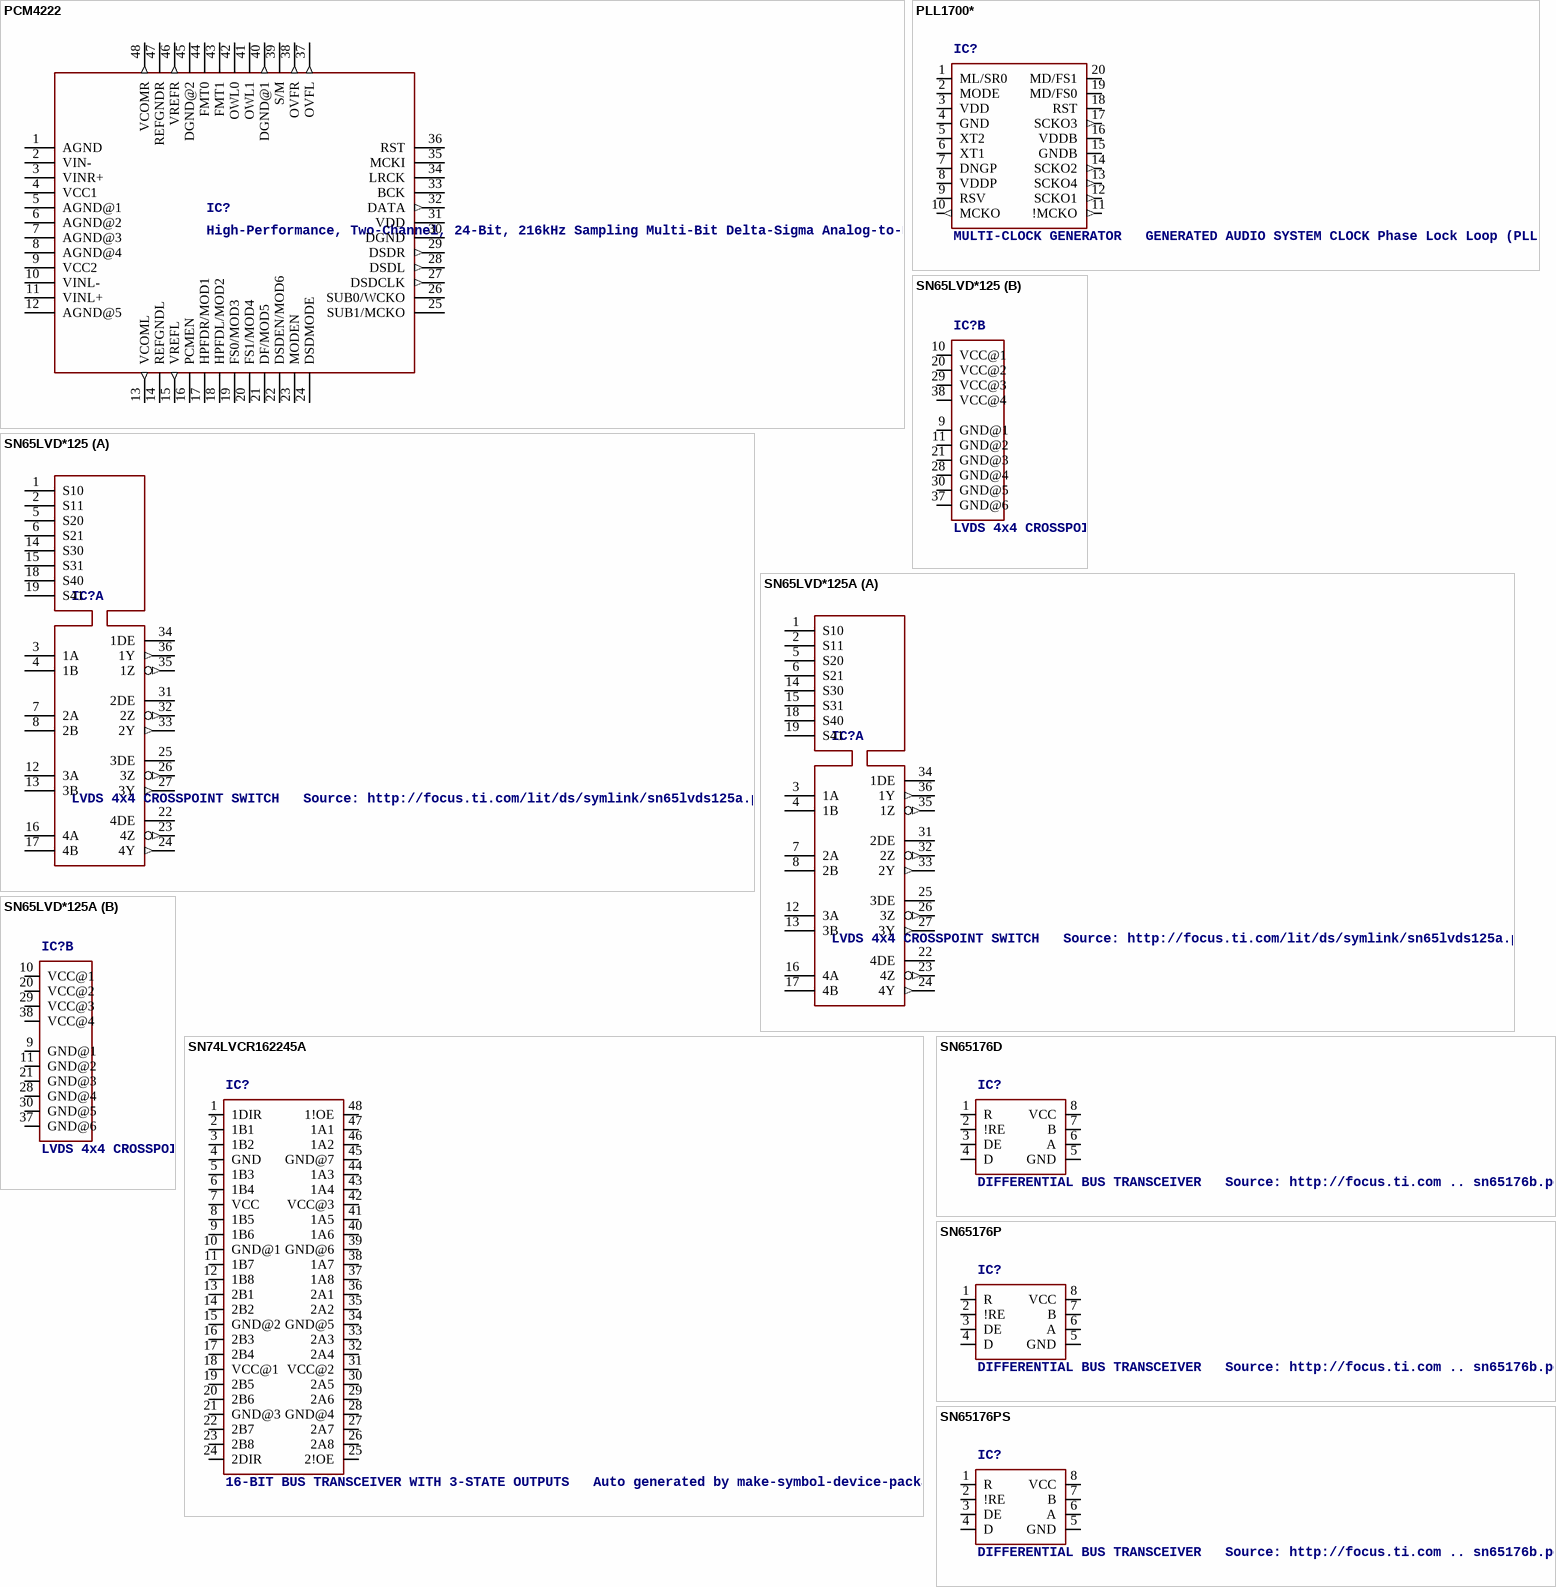
[diagram p18: symbols PCM4222 to SN65176PS]

## PCM4222
designator IC?, comment High-Performance, Two-Channel, 24-Bit, 216kHz Sampling Multi-Bit Delta-Sigma Analog-to-Digital Converter   Auto generated by make-symbol-device-package-bsdl.ulp Rev. 29 Source: http://focus.ti.com/lit/ds/symlink/pcm4222.pdf
MPN: PCM4222PFB; OC_FARNELL: 1390708; OC_NEWARK: 36M9296
footprint PFB_S-PQFP-G48
pins: 1 AGND (power), 2 VIN-, 3 VINR+, 4 VCC1 (power), 5 AGND@1 (power), 6 AGND@2 (power), 7 AGND@3 (power), 8 AGND@4 (power), 9 VCC2 (power), 10 VINL-, 11 VINL+, 12 AGND@5 (power), 13 VCOML (out), 14 REFGNDL (power), 15 VREFL (out), 16 PCMEN, 17 HPFDR/MOD1, 18 HPFDL/MOD2, 19 FS0/MOD3, 20 FS1/MOD4, 21 DF/MOD5, 22 DSDEN/MOD6, 23 MODEN, 24 DSDMODE, 25 SUB1/MCKO, 26 SUB0/WCKO, 27 DSDCLK (out), 28 DSDL (out), 29 DSDR (out), 30 DGND (power), 31 VDD (power), 32 DATA (out), 33 BCK, 34 LRCK, 35 MCKI, 36 RST, 37 OVFL (out), 38 OVFR (out), 39 S/M, 40 DGND@1 (out), 41 OWL1, 42 OWL0, 43 FMT1, 44 FMT0, 45 DGND@2 (power), 46 VREFR (out), 47 REFGNDR (power), 48 VCOMR (out)

## PLL1700*
designator IC?, comment MULTI-CLOCK GENERATOR   GENERATED AUDIO SYSTEM CLOCK Phase Lock Loop (PLL).
MPN: PLL1700E; MF: TEXAS INSTRUMENT CONNECTORS; OC_FARNELL: unknown; OC_NEWARK: 36K3452
footprint SSOP20
pins: 1 ML/SR0, 2 MODE, 3 VDD, 4 GND (power), 5 XT2, 6 XT1, 7 DNGP (power), 8 VDDP (power), 9 RSV, 10 MCKO (out), 11 !MCKO (out), 12 SCKO1 (out), 13 SCKO4 (out), 14 SCKO2 (out), 15 GNDB (power), 16 VDDB (power), 17 SCKO3 (out), 18 RST, 19 MD/FS0, 20 MD/FS1

## SN65LVD*125
designator IC?, comment LVDS 4x4 CROSSPOINT SWITCH   Source: http://focus.ti.com/lit/ds/symlink/sn65lvds125a.pdf
MPN: SN65LVDS125ADBT; MPN: SN65LVDT125ADBT; MF: TEXAS INSTRUMENT CONNECTORS; OC_FARNELL: 1509804; OC_NEWARK: 01J0701; OC_FARNELL: 1408842; OC_NEWARK: 01J0705
footprint DBT_R-PDSO-G38
part A pins: 1 S10, 2 S11, 3 1A, 4 1B, 5 S20, 6 S21, 7 2A, 8 2B, 12 3A, 13 3B, 14 S30, 15 S31, 16 4A, 17 4B, 18 S40, 19 S41, 22 4DE, 23 4Z (out), 24 4Y (out), 25 3DE, 26 3Z (out), 27 3Y (out), 31 2DE, 32 2Z (out), 33 2Y (out), 34 1DE, 35 1Z (out), 36 1Y (out)
part B pins: 9 GND@1, 10 VCC@1, 11 GND@2, 20 VCC@2, 21 GND@3, 28 GND@4, 29 VCC@3, 30 GND@5, 37 GND@6, 38 VCC@4

## SN65LVD*125A
designator IC?, comment LVDS 4x4 CROSSPOINT SWITCH   Source: http://focus.ti.com/lit/ds/symlink/sn65lvds125a.pdf
MPN: SN65LVDS125ADBT; MPN: SN65LVDT125ADBTR; MF: TEXAS INSTRUMENT CONNECTORS; OC_FARNELL: 1408802; OC_NEWARK: 01J0701; OC_FARNELL: 1408842; OC_NEWARK: 01J0706
footprint DBT_R-PDSO-G38
part A pins: 1 S10, 2 S11, 3 1A, 4 1B, 5 S20, 6 S21, 7 2A, 8 2B, 12 3A, 13 3B, 14 S30, 15 S31, 16 4A, 17 4B, 18 S40, 19 S41, 22 4DE, 23 4Z (out), 24 4Y (out), 25 3DE, 26 3Z (out), 27 3Y (out), 31 2DE, 32 2Z (out), 33 2Y (out), 34 1DE, 35 1Z (out), 36 1Y (out)
part B pins: 9 GND@1, 10 VCC@1, 11 GND@2, 20 VCC@2, 21 GND@3, 28 GND@4, 29 VCC@3, 30 GND@5, 37 GND@6, 38 VCC@4

## SN74LVCR162245A
designator IC?, comment 16-BIT BUS TRANSCEIVER WITH 3-STATE OUTPUTS   Auto generated by make-symbol-device-package-bsdl.ulp Rev. 33 Source: http://focus.ti.com/lit/ds/symlink/sn74lvcr162245.pdf
MPN: SN74LVCR162245DL; OC_FARNELL: 1739707; OC_NEWARK: 50R6613
footprint DL_R-PDSO-G48
pins: 1 1DIR, 2 1B1 (hiz), 3 1B2 (hiz), 4 GND (power), 5 1B3 (hiz), 6 1B4 (hiz), 7 VCC (power), 8 1B5 (hiz), 9 1B6 (hiz), 10 GND@1 (power), 11 1B7 (hiz), 12 1B8 (hiz), 13 2B1 (hiz), 14 2B2 (hiz), 15 GND@2 (power), 16 2B3 (hiz), 17 2B4 (hiz), 18 VCC@1 (power), 19 2B5 (hiz), 20 2B6 (hiz), 21 GND@3 (hiz), 22 2B7 (hiz), 23 2B8 (hiz), 24 2DIR, 25 2!OE, 26 2A8 (hiz), 27 2A7 (hiz), 28 GND@4 (power), 29 2A6 (hiz), 30 2A5 (hiz), 31 VCC@2 (power), 32 2A4 (hiz), 33 2A3 (hiz), 34 GND@5 (power), 35 2A2 (hiz), 36 2A1 (hiz), 37 1A8 (hiz), 38 1A7 (hiz), 39 GND@6 (hiz), 40 1A6 (hiz), 41 1A5 (hiz), 42 VCC@3 (power), 43 1A4 (hiz), 44 1A3 (hiz), 45 GND@7 (power), 46 1A2 (hiz), 47 1A1 (hiz), 48 1!OE

## SN65176D
designator IC?, comment DIFFERENTIAL BUS TRANSCEIVER   Source: http://focus.ti.com .. sn65176b.pdf
MPN: SN65176BD; MF: TEXAS INSTRUMENTS; OC_FARNELL: 9589970; OC_NEWARK: 08F5891
footprint SO-08
pins: 1 R, 2 !RE, 3 DE, 4 D, 5 GND, 6 A, 7 B, 8 VCC

## SN65176P
designator IC?, comment DIFFERENTIAL BUS TRANSCEIVER   Source: http://focus.ti.com .. sn65176b.pdf
MPN: SN65176BP; MF: TEXAS INSTRUMENTS; OC_FARNELL: 1755024; OC_NEWARK: 60K6785
footprint DIL08
pins: 1 R, 2 !RE, 3 DE, 4 D, 5 GND, 6 A, 7 B, 8 VCC

## SN65176PS
designator IC?, comment DIFFERENTIAL BUS TRANSCEIVER   Source: http://focus.ti.com .. sn65176b.pdf
OC_FARNELL: unknown; OC_NEWARK: unknown
footprint SOP-08
pins: 1 R, 2 !RE, 3 DE, 4 D, 5 GND, 6 A, 7 B, 8 VCC

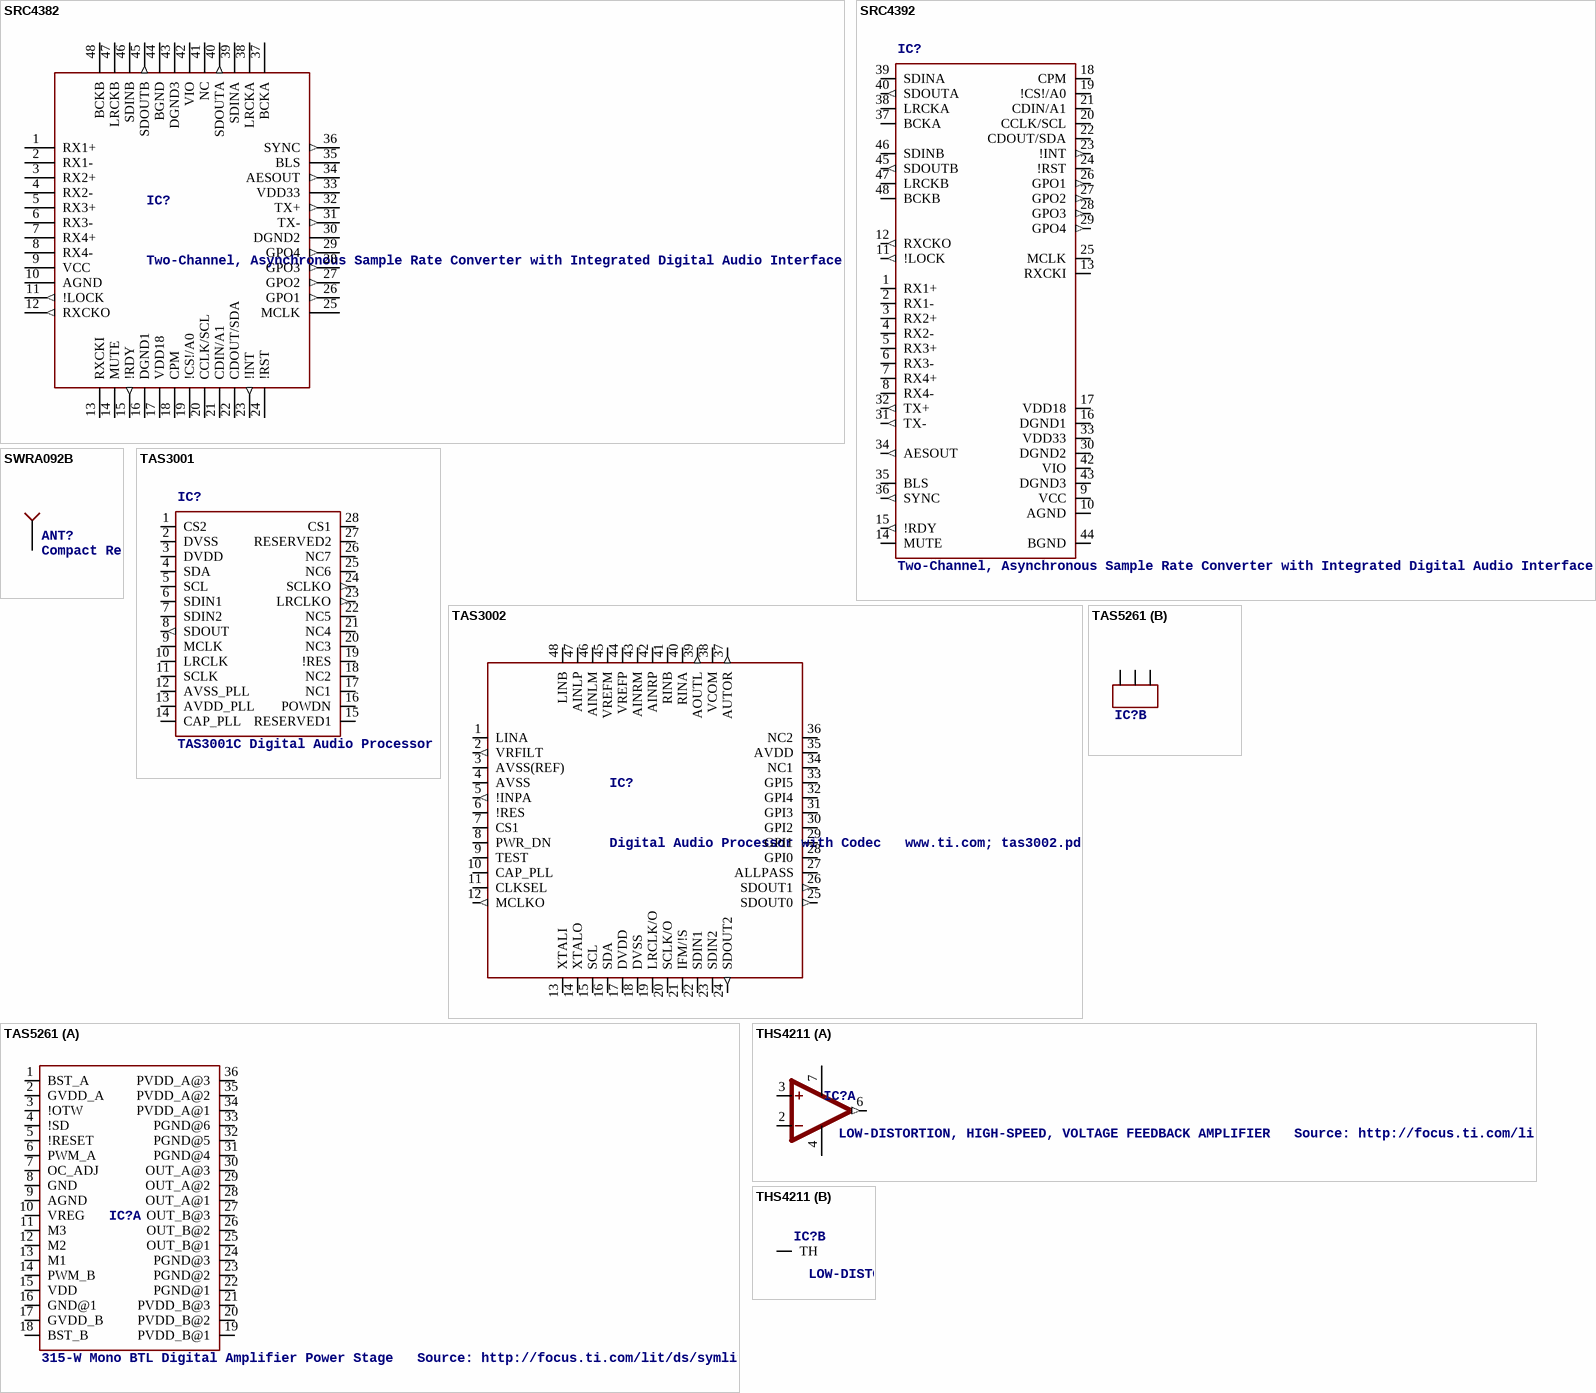
[diagram p19: symbols SRC4382 to THS4211]

## SRC4382
designator IC?, comment Two-Channel, Asynchronous Sample Rate Converter with Integrated Digital Audio Interface Receiver and Transmitter   Auto generated by make-symbol-device-package-bsdl.ulp Rev. 29 Source: http://focus.ti.com/lit/ds/symlink/src4382.pdf
MPN: SRC4382IPFB; OC_FARNELL: 1755339; OC_NEWARK: 99K4322
footprint S-PQFP-G48
pins: 1 RX1+, 2 RX1-, 3 RX2+, 4 RX2-, 5 RX3+, 6 RX3-, 7 RX4+, 8 RX4-, 9 VCC (power), 10 AGND (power), 11 !LOCK (out), 12 RXCKO (out), 13 RXCKI, 14 MUTE, 15 !RDY (out), 16 DGND1 (power), 17 VDD18 (power), 18 CPM, 19 !CS!/A0, 20 CCLK/SCL, 21 CDIN/A1, 22 CDOUT/SDA, 23 !INT (out), 24 !RST, 25 MCLK, 26 GPO1 (out), 27 GPO2 (out), 28 GPO3 (out), 29 GPO4 (out), 30 DGND2 (power), 31 TX- (out), 32 TX+ (out), 33 VDD33 (power), 34 AESOUT (out), 35 BLS, 36 SYNC (out), 37 BCKA, 38 LRCKA, 39 SDINA, 40 SDOUTA (out), 41 NC, 42 VIO (power), 43 DGND3 (power), 44 BGND (power), 45 SDOUTB (out), 46 SDINB, 47 LRCKB, 48 BCKB

## SRC4392
designator IC?, comment Two-Channel, Asynchronous Sample Rate Converter with Integrated Digital Audio Interface Receiver and Transmitter   Source: http://focus.ti.com/lit/ds/symlink/src4392.pdf
MPN: SRC4392IPFB; OC_FARNELL: 1624400; OC_NEWARK: 01P4068
footprint S-PQFP-G48
pins: 1 RX1+, 2 RX1-, 3 RX2+, 4 RX2-, 5 RX3+, 6 RX3-, 7 RX4+, 8 RX4-, 9 VCC, 10 AGND, 11 !LOCK (out), 12 RXCKO (out), 13 RXCKI, 14 MUTE, 15 !RDY (out), 16 DGND1, 17 VDD18, 18 CPM, 19 !CS!/A0, 20 CCLK/SCL, 21 CDIN/A1, 22 CDOUT/SDA, 23 !INT (out), 24 !RST, 25 MCLK, 26 GPO1 (out), 27 GPO2 (out), 28 GPO3 (out), 29 GPO4 (out), 30 DGND2, 31 TX- (out), 32 TX+ (out), 33 VDD33, 34 AESOUT (out), 35 BLS, 36 SYNC (out), 37 BCKA, 38 LRCKA, 39 SDINA, 40 SDOUTA (out), 42 VIO, 43 DGND3, 44 BGND, 45 SDOUTB (out), 46 SDINB, 47 LRCKB, 48 BCKB

## SWRA092B
designator ANT?, comment Compact Reach XtendTM Bluetooth®, 802.11b/g WLAN Chip Antenna   Source:  Data sheet
footprint SWRA092B
pins: 1 ANTENNA

## TAS3001
designator IC?, comment TAS3001C Digital Audio Processor
OC_FARNELL: unknown; OC_NEWARK: unknown
footprint PSO28
pins: 1 CS2, 2 DVSS (power), 3 DVDD (power), 4 SDA, 5 SCL, 6 SDIN1, 7 SDIN2, 8 SDOUT (out), 9 MCLK, 10 LRCLK, 11 SCLK, 12 AVSS_PLL (power), 13 AVDD_PLL (power), 14 CAP_PLL, 15 RESERVED1, 16 POWDN, 17 NC1, 18 NC2, 19 !RES, 20 NC3, 21 NC4, 22 NC5, 23 LRCLKO (out), 24 SCLKO (out), 25 NC6, 26 NC7, 27 RESERVED2, 28 CS1

## TAS3002
designator IC?, comment Digital Audio Processor with Codec   www.ti.com; tas3002.pdf
MPN: TAS3002PFB; MF: TEXAS INSTRUMENTS; OC_FARNELL: unknown; OC_NEWARK: 76C5960
footprint PQFP48
pins: 1 LINA, 2 VRFILT (out), 3 AVSS(REF) (power), 4 AVSS (power), 5 !INPA (out), 6 !RES, 7 CS1, 8 PWR_DN, 9 TEST, 10 CAP_PLL, 11 CLKSEL, 12 MCLKO (out), 13 XTALI, 14 XTALO, 15 SCL, 16 SDA, 17 DVDD (power), 18 DVSS (power), 19 LRCLK/O, 20 SCLK/O, 21 IFM/!S, 22 SDIN1, 23 SDIN2, 24 SDOUT2 (out), 25 SDOUT0 (out), 26 SDOUT1 (out), 27 ALLPASS, 28 GPI0, 29 GPI1, 30 GPI2, 31 GPI3, 32 GPI4, 33 GPI5, 34 NC1, 35 AVDD (power), 36 NC2, 37 AUTOR (out), 38 VCOM (power), 39 AOUTL (out), 40 RINA, 41 RINB, 42 AINRP, 43 AINRM, 44 VREFP, 45 VREFM, 46 AINLM, 47 AINLP, 48 LINB

## TAS5261
designator IC?, comment 315-W Mono BTL Digital Amplifier Power Stage   Source: http://focus.ti.com/lit/ds/symlink/tas5261.pdf
MPN: TAS5261DKD; MF: TEXAS INSTRUMENT CONNECTORS; OC_FARNELL: 1564920; OC_NEWARK: 18M3142
footprint DKD_R-PDSO-G36
part A pins: 1 BST_A, 2 GVDD_A, 3 !OTW, 4 !SD, 5 !RESET, 6 PWM_A, 7 OC_ADJ, 8 GND, 9 AGND, 10 VREG, 11 M3, 12 M2, 13 M1, 14 PWM_B, 15 VDD, 16 GND@1, 17 GVDD_B, 18 BST_B, 19 PVDD_B@1, 20 PVDD_B@2, 21 PVDD_B@3, 22 PGND@1, 23 PGND@2, 24 PGND@3, 25 OUT_B@1, 26 OUT_B@2, 27 OUT_B@3, 28 OUT_A@1, 29 OUT_A@2, 30 OUT_A@3, 31 PGND@4, 32 PGND@5, 33 PGND@6, 34 PVDD_A@1, 35 PVDD_A@2, 36 PVDD_A@3
part B pins: EXP@1, EXP@2, EXP@3

## THS4211
designator IC?, comment LOW-DISTORTION, HIGH-SPEED, VOLTAGE FEEDBACK AMPLIFIER   Source: http://focus.ti.com/lit/ds/symlink/ths4211.pdf
MPN: THS4211DGK; MF: TEXAS INSTRUMENT CONNECTORS; OC_FARNELL: 8453306; OC_NEWARK: 95H4489
footprint S-PDSO-G08
part A pins: 2 -IN, 3 +IN, 4 V- (power), 6 OUT (out), 7 V+ (power)
part B pins: TH

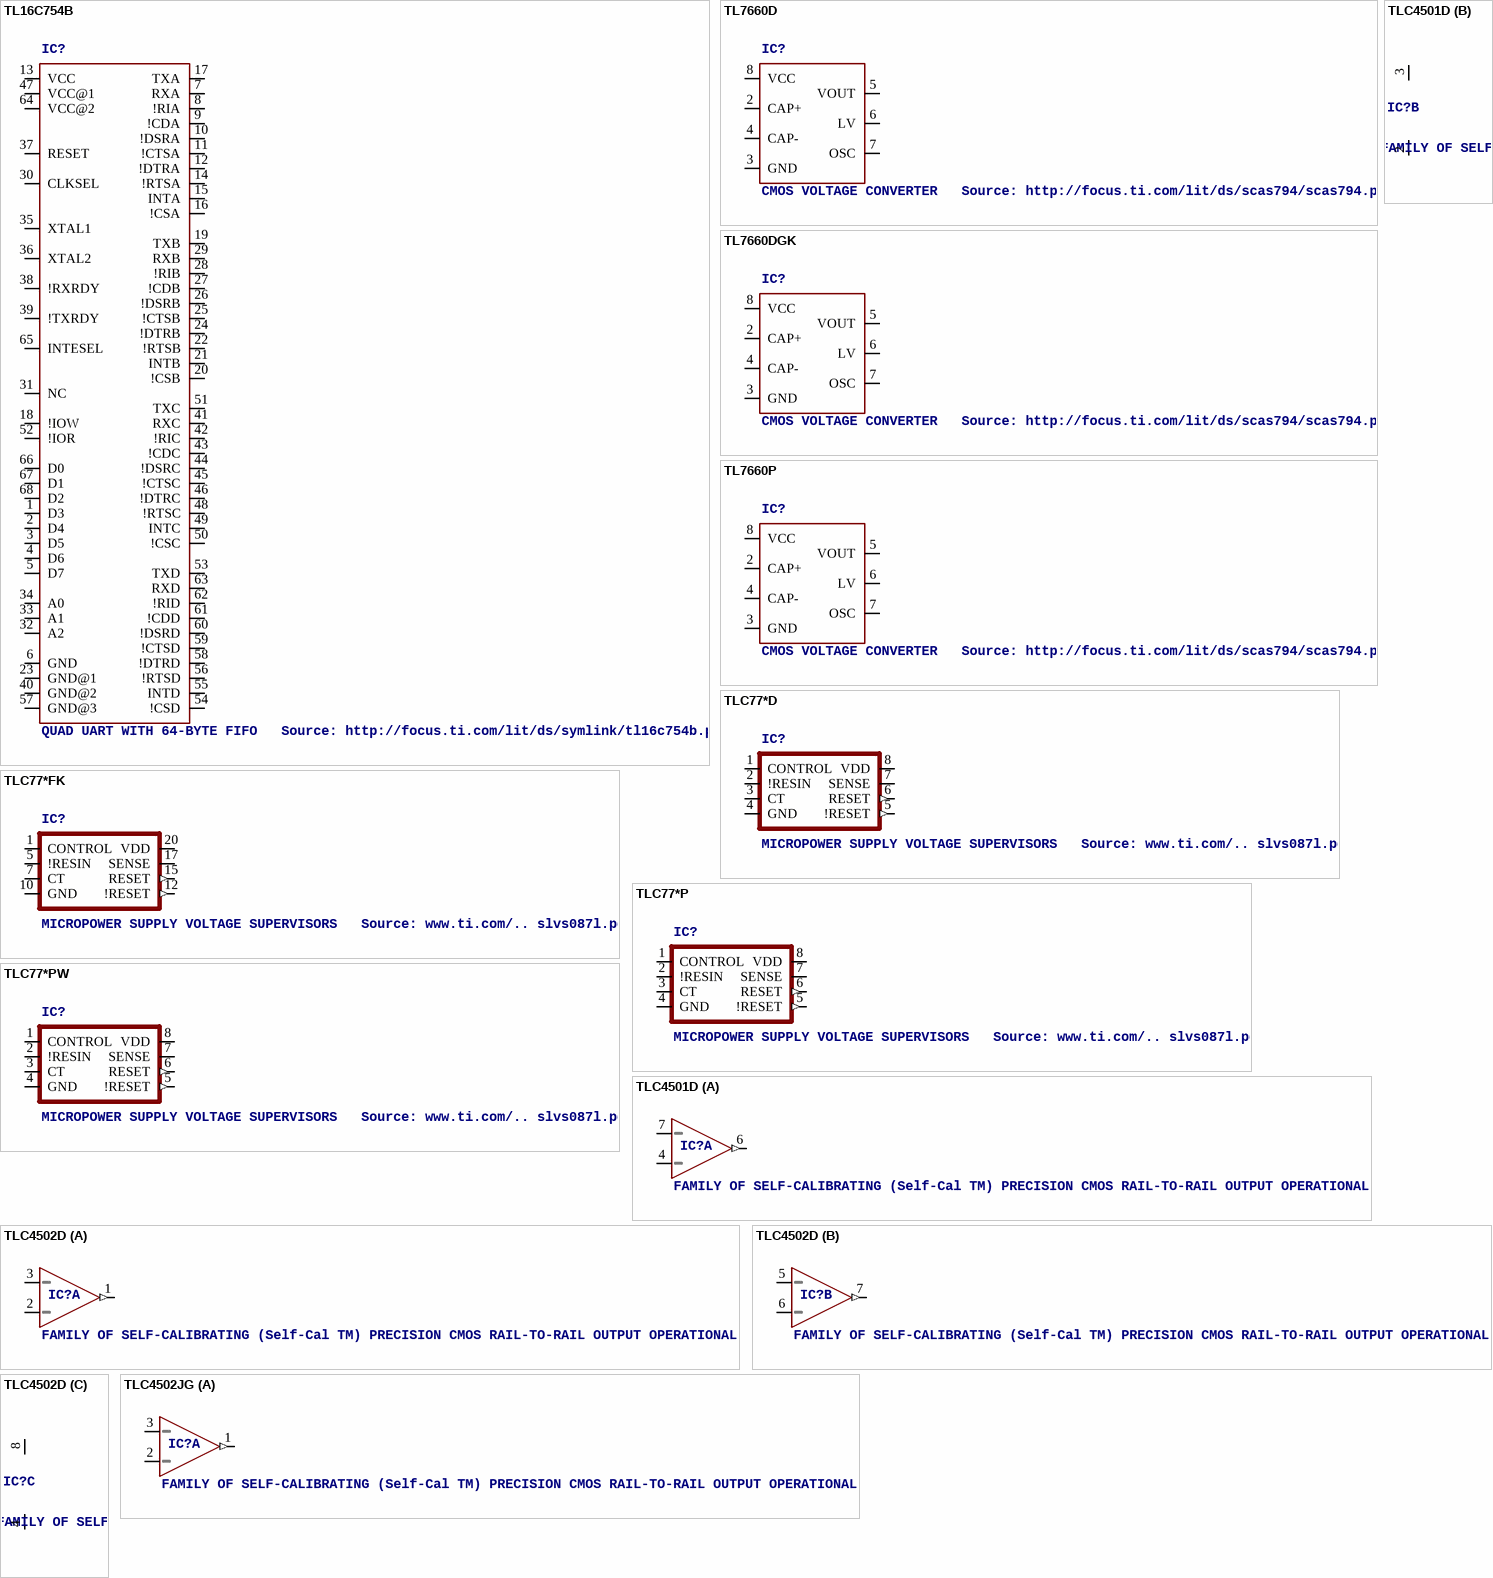
[diagram p20: symbols TL16C754B to TLC4502JG]

## TL16C754B
designator IC?, comment QUAD UART WITH 64-BYTE FIFO   Source: http://focus.ti.com/lit/ds/symlink/tl16c754b.pdf
MPN: TL16C754BFN; OC_FARNELL: 1659627; OC_NEWARK: 12P7902
footprint PLCC68S
pins: 1 D3, 2 D4, 3 D5, 4 D6, 5 D7, 6 GND, 7 RXA, 8 !RIA, 9 !CDA, 10 !DSRA, 11 !CTSA, 12 !DTRA, 13 VCC, 14 !RTSA, 15 INTA, 16 !CSA, 17 TXA, 18 !IOW, 19 TXB, 20 !CSB, 21 INTB, 22 !RTSB, 23 GND@1, 24 !DTRB, 25 !CTSB, 26 !DSRB, 27 !CDB, 28 !RIB, 29 RXB, 30 CLKSEL, 31 NC, 32 A2, 33 A1, 34 A0, 35 XTAL1, 36 XTAL2, 37 RESET, 38 !RXRDY, 39 !TXRDY, 40 GND@2, 41 RXC, 42 !RIC, 43 !CDC, 44 !DSRC, 45 !CTSC, 46 !DTRC, 47 VCC@1, 48 !RTSC, 49 INTC, 50 !CSC, 51 TXC, 52 !IOR, 53 TXD, 54 !CSD, 55 INTD, 56 !RTSD, 57 GND@3, 58 !DTRD, 59 !CTSD, 60 !DSRD, 61 !CDD, 62 !RID, 63 RXD, 64 VCC@2, 65 INTESEL, 66 D0, 67 D1, 68 D2

## TL7660D
designator IC?, comment CMOS VOLTAGE CONVERTER   Source: http://focus.ti.com/lit/ds/scas794/scas794.pdf
MPN: TL7660CD; OC_FARNELL: 1755282; OC_NEWARK: 14M2439
footprint D_R-PDSO-G08
pins: 2 CAP+, 3 GND (power), 4 CAP-, 5 VOUT, 6 LV, 7 OSC, 8 VCC (power)

## TL7660DGK
designator IC?, comment CMOS VOLTAGE CONVERTER   Source: http://focus.ti.com/lit/ds/scas794/scas794.pdf
OC_FARNELL: unknown; OC_NEWARK: unknown
footprint DGK_S-PDSO-G8
pins: 2 CAP+, 3 GND (power), 4 CAP-, 5 VOUT, 6 LV, 7 OSC, 8 VCC (power)

## TL7660P
designator IC?, comment CMOS VOLTAGE CONVERTER   Source: http://focus.ti.com/lit/ds/scas794/scas794.pdf
MPN: TL7660CP; OC_FARNELL: 1755283; OC_NEWARK: 14M2447
footprint DIL08
pins: 2 CAP+, 3 GND (power), 4 CAP-, 5 VOUT, 6 LV, 7 OSC, 8 VCC (power)

## TLC77*D
designator IC?, comment MICROPOWER SUPPLY VOLTAGE SUPERVISORS   Source: www.ti.com/.. slvs087l.pdf
MPN: TLC7703QPE4; MPN: TLC7705QP; MPN: TLC7725QP; MPN: TLC7733QP; MF: TEXAS INSTRUMENT CONNECTORS; OC_FARNELL: unknown; OC_NEWARK: unknown; OC_NEWARK: 24K5359; OC_FARNELL: 8454671; OC_NEWARK: 76C7537; OC_NEWARK: 76C7546; OC_FARNELL: 1411422; OC_NEWARK: 76C7553
footprint DIL08
pins: 1 CONTROL, 2 !RESIN, 3 CT, 4 GND (power), 5 !RESET (out), 6 RESET (out), 7 SENSE, 8 VDD (power)

## TLC77*FK
designator IC?, comment MICROPOWER SUPPLY VOLTAGE SUPERVISORS   Source: www.ti.com/.. slvs087l.pdf
OC_FARNELL: unknown; OC_NEWARK: unknown
footprint PLCC20
pins: 1 CONTROL, 5 !RESIN, 7 CT, 10 GND (power), 12 !RESET (out), 15 RESET (out), 17 SENSE, 20 VDD (power)

## TLC77*P
designator IC?, comment MICROPOWER SUPPLY VOLTAGE SUPERVISORS   Source: www.ti.com/.. slvs087l.pdf
MPN: TLC7701IP; MPN: TLC7703QP; MPN: TLC7705IP; MPN: TLC7725IP; MPN: TLC7733QP; MF: TEXAS INSTRUMENT CONNECTORS; OC_FARNELL: 1411405; OC_NEWARK: 76C7517; OC_FARNELL: 1287644; OC_NEWARK: 76C7531; OC_FARNELL: 1510448; OC_NEWARK: 35K1227; OC_FARNELL: unknown; OC_NEWARK: 76C7541; OC_FARNELL: 1411422; OC_NEWARK: 76C7553
footprint DIL08
pins: 1 CONTROL, 2 !RESIN, 3 CT, 4 GND (power), 5 !RESET (out), 6 RESET (out), 7 SENSE, 8 VDD (power)

## TLC77*PW
designator IC?, comment MICROPOWER SUPPLY VOLTAGE SUPERVISORS   Source: www.ti.com/.. slvs087l.pdf
MPN: TLC7701IPWR; MPN: TLC7703IPW; MPN: TLC7705QPW; MPN: TLC7725IPWG4; MPN: TLC7733QPWG4; MF: TEXAS INSTRUMENTS; MF: TEXAS INSTRUMENT CONNECTORS; OC_FARNELL: 1461368; OC_NEWARK: 76C7519; OC_FARNELL: 1411411; OC_NEWARK: 76C7527; OC_FARNELL: 1411414; OC_NEWARK: 95H4505; OC_FARNELL: 1411418; OC_NEWARK: 18M3172; OC_FARNELL: 1411423; OC_NEWARK: 54K1054
footprint PW_R-PDSO-G08
pins: 1 CONTROL, 2 !RESIN, 3 CT, 4 GND (power), 5 !RESET (out), 6 RESET (out), 7 SENSE, 8 VDD (power)

## TLC4501D
designator IC?, comment FAMILY OF SELF-CALIBRATING (Self-Cal TM) PRECISION CMOS RAIL-TO-RAIL OUTPUT OPERATIONAL AMPLIFIERS   Source:  Data sheet
footprint D_R-PDSO-G08
part A pins: 4 -, 6 OUT (out), 7 +
part B pins: 2 V- (power), 3 V+ (power)

## TLC4502D
designator IC?, comment FAMILY OF SELF-CALIBRATING (Self-Cal TM) PRECISION CMOS RAIL-TO-RAIL OUTPUT OPERATIONAL AMPLIFIERS   Source:  Data sheet
footprint D_R-PDSO-G08
part A pins: 1 OUT (out), 2 -, 3 +
part B pins: 5 +, 6 -, 7 OUT (out)
part C pins: 4 V- (power), 8 V+ (power)

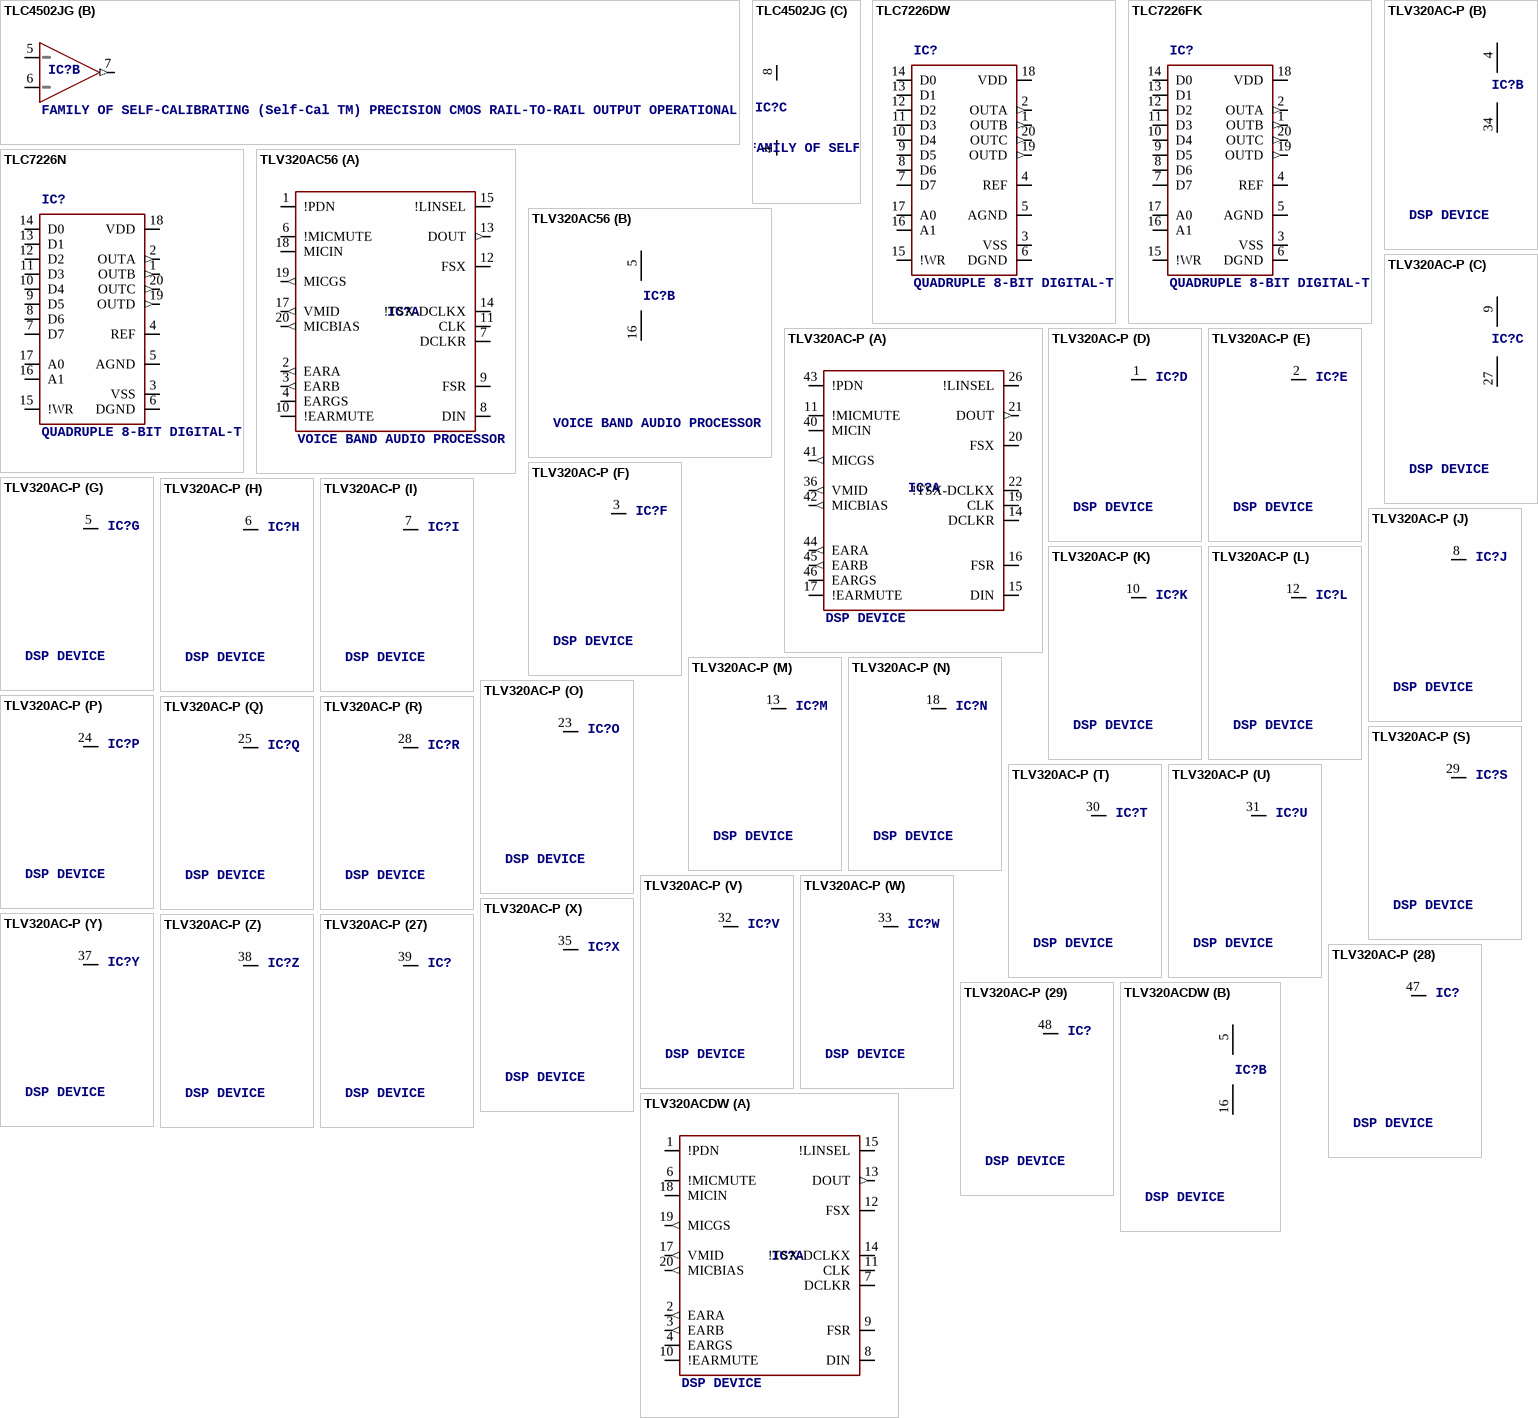
[diagram p21: symbols TLC4502JG to TLV320ACDW]

## TLC4502JG
designator IC?, comment FAMILY OF SELF-CALIBRATING (Self-Cal TM) PRECISION CMOS RAIL-TO-RAIL OUTPUT OPERATIONAL AMPLIFIERS   Source:  Data sheet
footprint DIL08
part A pins: 1 OUT (out), 2 -, 3 +
part B pins: 5 +, 6 -, 7 OUT (out)
part C pins: 4 V- (power), 8 V+ (power)

## TLC7226DW
designator IC?, comment QUADRUPLE 8-BIT DIGITAL-TO-ANALOG CONVERTERS   Source: http://focus.ti.com/lit/ds/symlink/tlc7226.pdf
MPN: TLC7226CDW; MPN: TLC7226IDW; MF: TEXAS INSTRUMENTS; OC_FARNELL: 9854061; OC_NEWARK: 35K1223; OC_FARNELL: 8454612; OC_NEWARK: 76C7490
footprint SO-20DW
pins: 1 OUTB (out), 2 OUTA (out), 3 VSS (power), 4 REF, 5 AGND (power), 6 DGND (power), 7 D7, 8 D6, 9 D5, 10 D4, 11 D3, 12 D2, 13 D1, 14 D0, 15 !WR, 16 A1, 17 A0, 18 VDD (power), 19 OUTD (out), 20 OUTC (out)

## TLC7226FK
designator IC?, comment QUADRUPLE 8-BIT DIGITAL-TO-ANALOG CONVERTERS   Source: http://focus.ti.com/lit/ds/symlink/tlc7226.pdf
OC_FARNELL: unknown; OC_NEWARK: unknown
footprint PLCC20
pins: 1 OUTB (out), 2 OUTA (out), 3 VSS (power), 4 REF, 5 AGND (power), 6 DGND (power), 7 D7, 8 D6, 9 D5, 10 D4, 11 D3, 12 D2, 13 D1, 14 D0, 15 !WR, 16 A1, 17 A0, 18 VDD (power), 19 OUTD (out), 20 OUTC (out)

## TLC7226N
designator IC?, comment QUADRUPLE 8-BIT DIGITAL-TO-ANALOG CONVERTERS   Source: http://focus.ti.com/lit/ds/symlink/tlc7226.pdf
MPN: TLC7226CN; MPN: TLC7226IN; MF: TEXAS INSTRUMENT CONNECTORS; OC_FARNELL: 8454604; OC_NEWARK: 36K3647; OC_FARNELL: 8454620; OC_NEWARK: 76C7492
footprint DIL20
pins: 1 OUTB (out), 2 OUTA (out), 3 VSS (power), 4 REF, 5 AGND (power), 6 DGND (power), 7 D7, 8 D6, 9 D5, 10 D4, 11 D3, 12 D2, 13 D1, 14 D0, 15 !WR, 16 A1, 17 A0, 18 VDD (power), 19 OUTD (out), 20 OUTC (out)

## TLV320AC56
designator IC?, comment VOICE BAND AUDIO PROCESSOR
OC_FARNELL: unknown; OC_NEWARK: unknown
footprint DIL20
part A pins: 1 !PDN, 2 EARA (out), 3 EARB (out), 4 EARGS, 6 !MICMUTE, 7 DCLKR, 8 DIN, 9 FSR, 10 !EARMUTE, 11 CLK, 12 FSX, 13 DOUT (out), 14 !TSX-DCLKX, 15 !LINSEL, 17 VMID (out), 18 MICIN, 19 MICGS (out), 20 MICBIAS (out)
part B pins: 5 VCC (power), 16 GND (power)

## TLV320AC-P
designator IC?, comment DSP DEVICE
OC_FARNELL: unknown; OC_NEWARK: unknown
footprint PQFP48
part A pins: 11 !MICMUTE, 14 DCLKR, 15 DIN, 16 FSR, 17 !EARMUTE, 19 CLK, 20 FSX, 21 DOUT (out), 22 !TSX-DCLKX, 26 !LINSEL, 36 VMID (out), 40 MICIN, 41 MICGS (out), 42 MICBIAS (out), 43 !PDN, 44 EARA (out), 45 EARB (out), 46 EARGS
part B pins: 4 AVCC (power), 34 AGND (power)
part C pins: 9 DVCC (power), 27 DGND (power)
part D pins: 1 NC
part E pins: 2 NC
part F pins: 3 NC
part G pins: 5 NC
part H pins: 6 NC
part I pins: 7 NC
part J pins: 8 NC
part K pins: 10 NC
part L pins: 12 NC
part M pins: 13 NC
part N pins: 18 NC
part O pins: 23 NC
part P pins: 24 NC
part Q pins: 25 NC
part R pins: 28 NC
part S pins: 29 NC
part T pins: 30 NC
part U pins: 31 NC
part V pins: 32 NC
part W pins: 33 NC
part X pins: 35 NC
part Y pins: 37 NC
part Z pins: 38 NC
part 27 pins: 39 NC
part 28 pins: 47 NC
part 29 pins: 48 NC

## TLV320ACDW
designator IC?, comment DSP DEVICE
OC_FARNELL: unknown; OC_NEWARK: unknown
footprint SO-20DW
part A pins: 1 !PDN, 2 EARA (out), 3 EARB (out), 4 EARGS, 6 !MICMUTE, 7 DCLKR, 8 DIN, 9 FSR, 10 !EARMUTE, 11 CLK, 12 FSX, 13 DOUT (out), 14 !TSX-DCLKX, 15 !LINSEL, 17 VMID (out), 18 MICIN, 19 MICGS (out), 20 MICBIAS (out)
part B pins: 5 VCC (power), 16 GND (power)

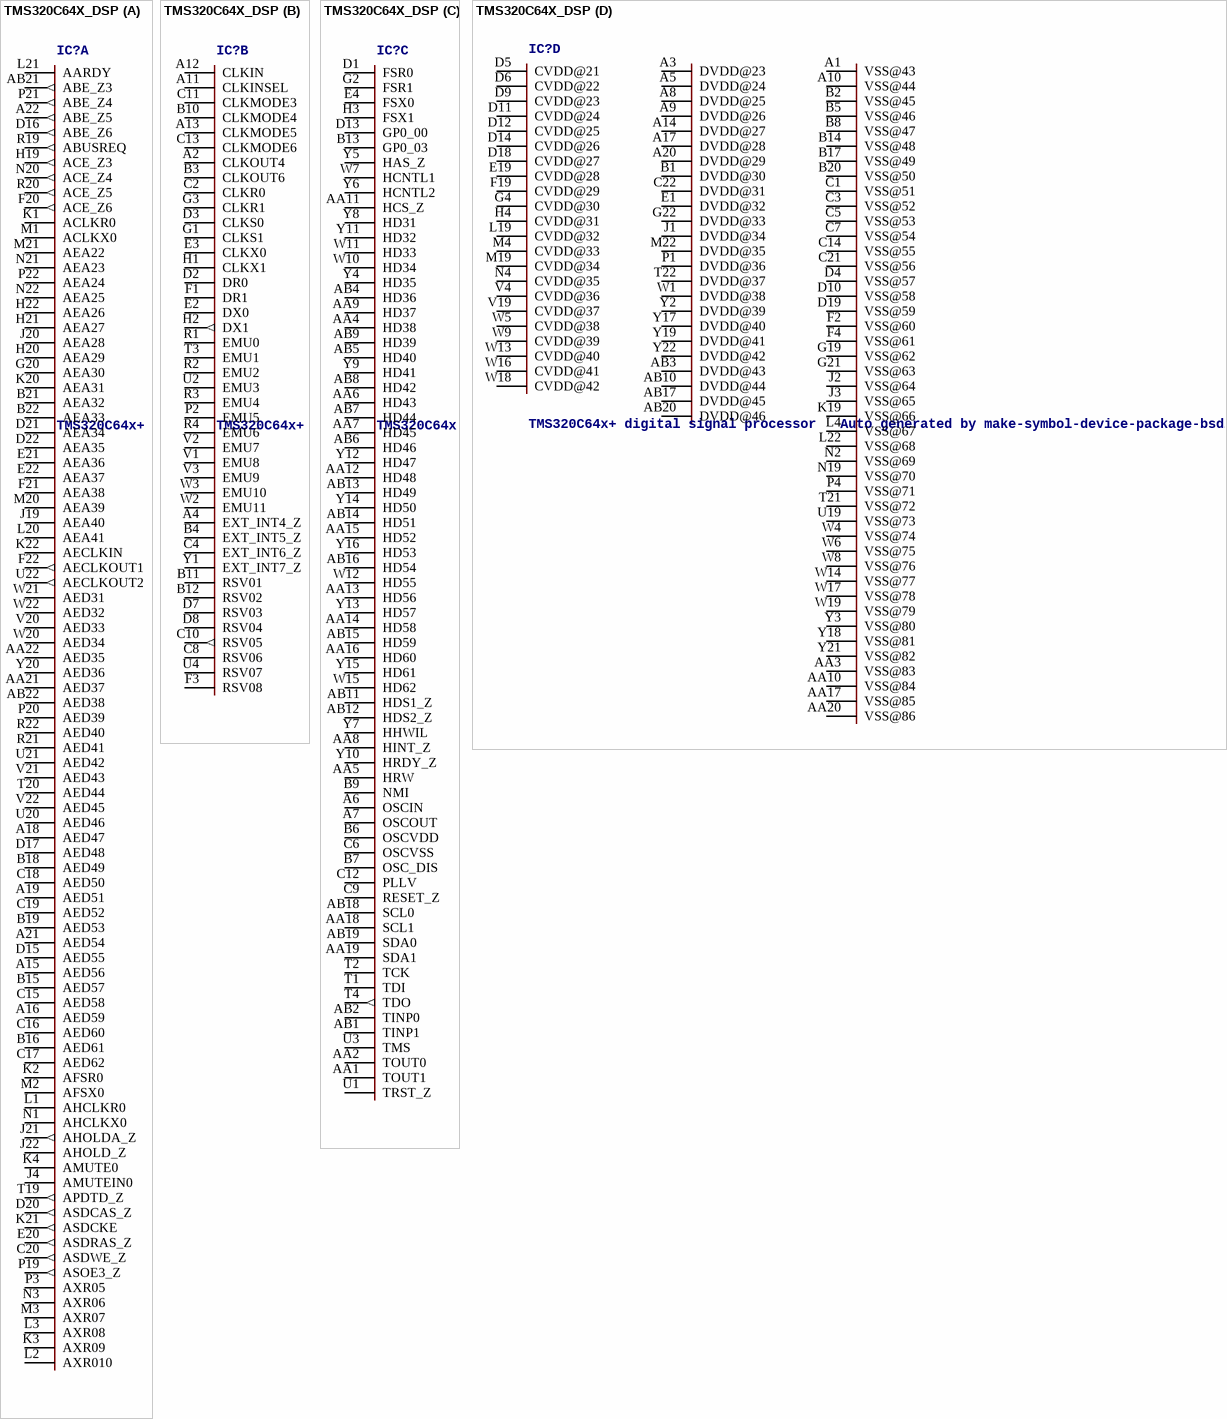
[diagram p22: symbol TMS320C64X_DSP]

## TMS320C64X_DSP
designator IC?, comment TMS320C64x+ digital signal processor   Auto generated by make-symbol-device-package-bsdl.ulp Rev. 29 Source: http://focus-webapps.ti.com .. sprm148b.bsd Connect-List generated from TMS320C64X_DSP.DEV Variant '' with connect-device-split-symbol-03.ulp
OC_FARNELL: 1610186; OC_NEWARK: unknown
footprint GTS_S-PBGA-N288
part A pins: A15 AED56, A16 AED59, A18 AED47, A19 AED51, A21 AED54, A22 ABE_Z5 (out), AA21 AED37, AA22 AED35, AB21 ABE_Z3 (out), AB22 AED38, B15 AED57, B16 AED61, B18 AED49, B19 AED53, B21 AEA32, B22 AEA33, C15 AED58, C16 AED60, C17 AED62, C18 AED50, C19 AED52, C20 ASDWE_Z (out), D15 AED55, D16 ABE_Z6 (out), D17 AED48, D20 ASDCAS_Z (out), D21 AEA34, D22 AEA35, E20 ASDRAS_Z (out), E21 AEA36, E22 AEA37, F20 ACE_Z6 (out), F21 AEA38, F22 AECLKOUT1 (out), G20 AEA30, H19 ACE_Z3 (out), H20 AEA29, H21 AEA27, H22 AEA26, J4 AMUTEIN0, J19 AEA40, J20 AEA28, J21 AHOLDA_Z (out), J22 AHOLD_Z, K1 ACLKR0, K2 AFSR0, K3 AXR09, K4 AMUTE0, K20 AEA31, K21 ASDCKE (out), K22 AECLKIN, L1 AHCLKR0, L2 AXR010, L3 AXR08, L20 AEA41, L21 AARDY, M1 ACLKX0, M2 AFSX0, M3 AXR07, M20 AEA39, M21 AEA22, N1 AHCLKX0, N3 AXR06, N20 ACE_Z4 (out), N21 AEA23, N22 AEA25, P3 AXR05, P19 ASOE3_Z (out), P20 AED39, P21 ABE_Z4 (out), P22 AEA24, R19 ABUSREQ (out), R20 ACE_Z5 (out), R21 AED41, R22 AED40, T19 APDTD_Z (out), T20 AED44, U20 AED46, U21 AED42, U22 AECLKOUT2 (out), V20 AED33, V21 AED43, V22 AED45, W20 AED34, W21 AED31, W22 AED32, Y20 AED36
part B pins: A2 CLKOUT4, A4 EXT_INT4_Z, A11 CLKINSEL, A12 CLKIN, A13 CLKMODE5, B3 CLKOUT6, B4 EXT_INT5_Z, B10 CLKMODE4, B11 RSV01, B12 RSV02, C2 CLKR0, C4 EXT_INT6_Z, C8 RSV06, C10 RSV05 (out), C11 CLKMODE3, C13 CLKMODE6, D2 DR0, D3 CLKS0, D7 RSV03, D8 RSV04, E2 DX0, E3 CLKX0, F1 DR1, F3 RSV08, G1 CLKS1, G3 CLKR1, H1 CLKX1, H2 DX1 (out), P2 EMU5, R1 EMU0, R2 EMU2, R3 EMU4, R4 EMU6, T3 EMU1, U2 EMU3, U4 RSV07, V1 EMU8, V2 EMU7, V3 EMU9, W2 EMU11, W3 EMU10, Y1 EXT_INT7_Z
part C pins: A6 OSCIN, A7 OSCOUT, AA1 TOUT1, AA2 TOUT0, AA4 HD38, AA5 HRW, AA6 HD43, AA7 HD45, AA8 HINT_Z, AA9 HD37, AA11 HCS_Z, AA12 HD48, AA13 HD56, AA14 HD58, AA15 HD52, AA16 HD60, AA18 SCL1, AA19 SDA1, AB1 TINP1, AB2 TINP0, AB4 HD36, AB5 HD40, AB6 HD46, AB7 HD44, AB8 HD42, AB9 HD39, AB11 HDS1_Z, AB12 HDS2_Z, AB13 HD49, AB14 HD51, AB15 HD59, AB16 HD54, AB18 SCL0, AB19 SDA0, B6 OSCVDD, B7 OSC_DIS, B9 NMI, B13 GP0_03, C6 OSCVSS, C9 RESET_Z, C12 PLLV, D1 FSR0, D13 GP0_00, E4 FSX0, G2 FSR1, H3 FSX1, T1 TDI, T2 TCK, T4 TDO (out), U1 TRST_Z, U3 TMS, W7 HCNTL1, W10 HD34, W11 HD33, W12 HD55, W15 HD62, Y4 HD35, Y5 HAS_Z, Y6 HCNTL2, Y7 HHWIL, Y8 HD31, Y9 HD41, Y10 HRDY_Z, Y11 HD32, Y12 HD47, Y13 HD57, Y14 HD50, Y15 HD61, Y16 HD53
part D pins: A1 VSS@43, A3 DVDD@23, A5 DVDD@24, A8 DVDD@25, A9 DVDD@26, A10 VSS@44, A14 DVDD@27, A17 DVDD@28, A20 DVDD@29, AA3 VSS@83, AA10 VSS@84, AA17 VSS@85, AA20 VSS@86, AB3 DVDD@43, AB10 DVDD@44, AB17 DVDD@45, AB20 DVDD@46, B1 DVDD@30, B2 VSS@45, B5 VSS@46, B8 VSS@47, B14 VSS@48, B17 VSS@49, B20 VSS@50, C1 VSS@51, C3 VSS@52, C5 VSS@53, C7 VSS@54, C14 VSS@55, C21 VSS@56, C22 DVDD@31, D4 VSS@57, D5 CVDD@21, D6 CVDD@22, D9 CVDD@23, D10 VSS@58, D11 CVDD@24, D12 CVDD@25, D14 CVDD@26, D18 CVDD@27, D19 VSS@59, E1 DVDD@32, E19 CVDD@28, F2 VSS@60, F4 VSS@61, F19 CVDD@29, G4 CVDD@30, G19 VSS@62, G21 VSS@63, G22 DVDD@33, H4 CVDD@31, J1 DVDD@34, J2 VSS@64, J3 VSS@65, K19 VSS@66, L4 VSS@67, L19 CVDD@32, L22 VSS@68, M4 CVDD@33, M19 CVDD@34, M22 DVDD@35, N2 VSS@69, N4 CVDD@35, N19 VSS@70, P1 DVDD@36, P4 VSS@71, T21 VSS@72, T22 DVDD@37, U19 VSS@73, V4 CVDD@36, V19 CVDD@37, W1 DVDD@38, W4 VSS@74, W5 CVDD@38, W6 VSS@75, W8 VSS@76, W9 CVDD@39, W13 CVDD@40, W14 VSS@77, W16 CVDD@41, W17 VSS@78, W18 CVDD@42, W19 VSS@79, Y2 DVDD@39, Y3 VSS@80, Y17 DVDD@40, Y18 VSS@81, Y19 DVDD@41, Y21 VSS@82, Y22 DVDD@42

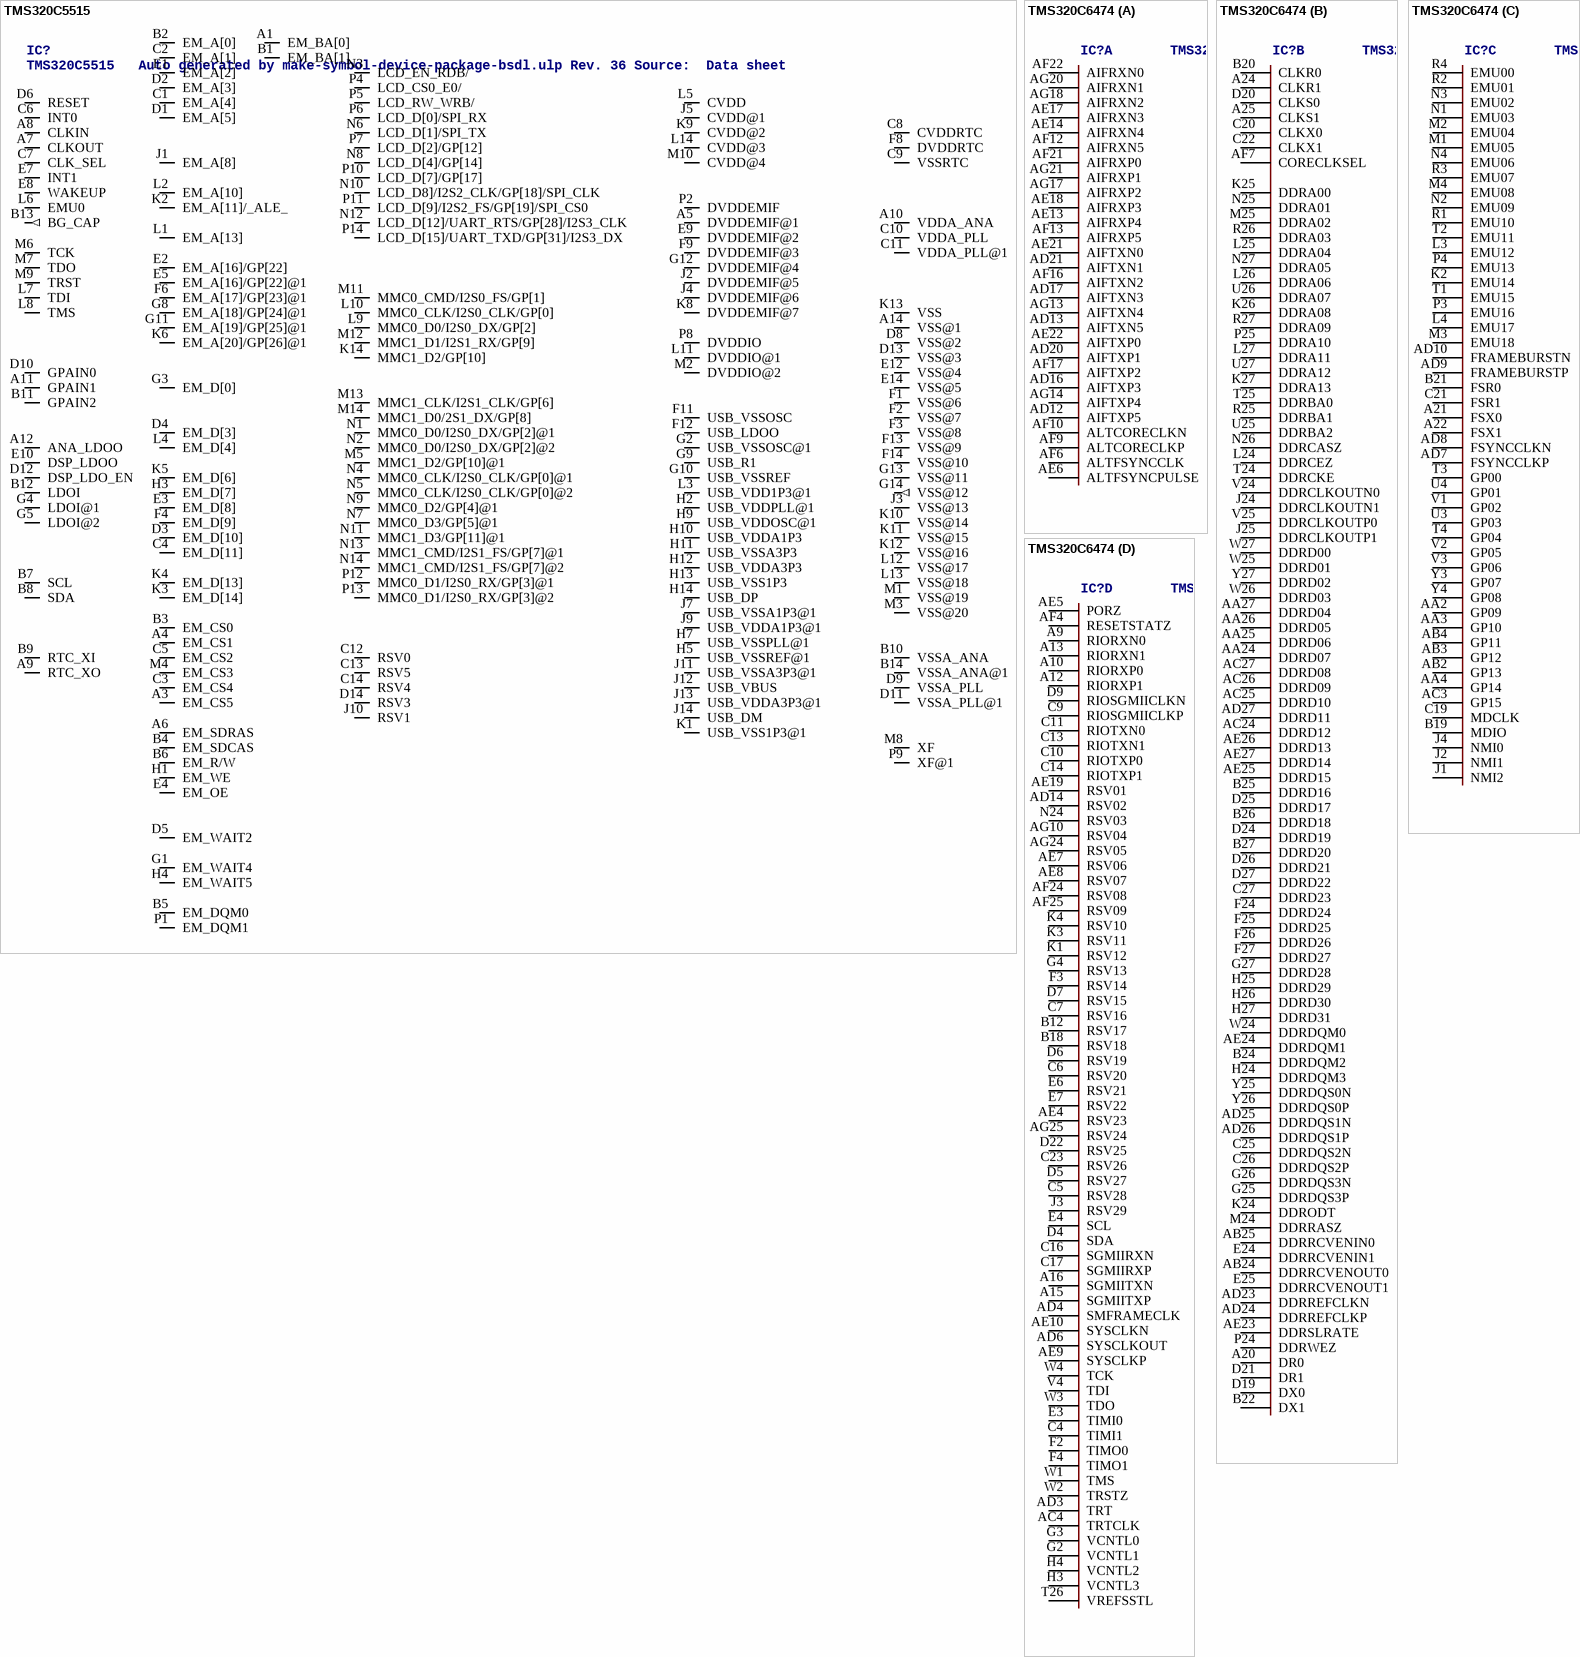
[diagram p23: symbols TMS320C5515 to TMS320C6474]

## TMS320C5515
designator IC?, comment TMS320C5515   Auto generated by make-symbol-device-package-bsdl.ulp Rev. 36 Source:  Data sheet
footprint ZCH(S-PBGA-N196)
pins: A1 EM_BA[0], A3 EM_CS5, A4 EM_CS1, A5 DVDDEMIF@1 (power), A6 EM_SDRAS, A7 CLKOUT, A8 CLKIN, A9 RTC_XO, A10 VDDA_ANA (power), A11 GPAIN1, A12 ANA_LDOO (power), A14 VSS@1 (power), B1 EM_BA[1], B2 EM_A[0] (hiz), B3 EM_CS0, B4 EM_SDCAS, B5 EM_DQM0, B6 EM_R/W, B7 SCL (hiz), B8 SDA (hiz), B9 RTC_XI, B10 VSSA_ANA (power), B11 GPAIN2, B12 LDOI (power), B13 BG_CAP (out), B14 VSSA_ANA@1 (power), C1 EM_A[4] (hiz), C2 EM_A[1] (hiz), C3 EM_CS4, C4 EM_D[11] (hiz), C5 EM_CS2, C6 INT0, C7 CLK_SEL, C8 CVDDRTC (power), C9 VSSRTC (power), C10 VDDA_PLL (power), C11 VDDA_PLL@1, C12 RSV0, C13 RSV5, C14 RSV4, D1 EM_A[5] (hiz), D2 EM_A[3] (hiz), D3 EM_D[10] (hiz), D4 EM_D[3] (hiz), D5 EM_WAIT2, D6 RESET, D8 VSS@2, D9 VSSA_PLL (power), D10 GPAIN0, D11 VSSA_PLL@1 (power), D12 DSP_LDO_EN, D13 VSS@3, D14 RSV3, E1 EM_A[2] (hiz), E2 EM_A[16]/GP[22] (hiz), E3 EM_D[8] (hiz), E4 EM_OE, E5 EM_A[16]/GP[22]@1 (hiz), E7 INT1, E8 WAKEUP (hiz), E9 DVDDEMIF@2 (power), E10 DSP_LDOO (power), E12 VSS@4 (power), E14 VSS@5 (power), F1 VSS@6 (hiz), F2 VSS@7 (hiz), F3 VSS@8 (hiz), F4 EM_D[9] (hiz), F6 EM_A[17]/GP[23]@1 (power), F8 DVDDRTC (power), F9 DVDDEMIF@3 (power), F11 USB_VSSOSC (power), F12 USB_LDOO (power), F13 VSS@9 (power), F14 VSS@10 (power), G1 EM_WAIT4, G2 USB_VSSOSC@1 (hiz), G3 EM_D[0] (hiz), G4 LDOI@1 (power), G5 LDOI@2 (power), G8 EM_A[18]/GP[24]@1 (power), G9 USB_R1, G10 USB_VSSREF (power), G11 EM_A[19]/GP[25]@1 (power), G12 DVDDEMIF@4 (power), G13 VSS@11, G14 VSS@12 (out), H1 EM_WE, H2 USB_VDDPLL@1 (hiz), H3 EM_D[7] (hiz), H4 EM_WAIT5, H5 USB_VSSREF@1 (power), H7 USB_VSSPLL@1 (power), H9 USB_VDDOSC@1 (power), H10 USB_VDDA1P3 (power), H11 USB_VSSA3P3 (power), H12 USB_VDDA3P3 (power), H13 USB_VSS1P3 (power), H14 USB_DP, J1 EM_A[8] (hiz), J2 DVDDEMIF@5 (hiz), J3 VSS@13 (hiz), J4 DVDDEMIF@6 (hiz), J5 CVDD@1 (power), J7 USB_VSSA1P3@1 (power), J9 USB_VDDA1P3@1 (power), J10 RSV1 (power), J11 USB_VSSA3P3@1 (power), J12 USB_VBUS, J13 USB_VDDA3P3@1 (power), J14 USB_DM, K1 USB_VSS1P3@1 (hiz), K2 EM_A[11]/_ALE_ (hiz), K3 EM_D[14] (hiz), K4 EM_D[13] (hiz), K5 EM_D[6] (hiz), K6 EM_A[20]/GP[26]@1, K8 DVDDEMIF@7 (power), K9 CVDD@2 (power), K10 VSS@14 (power), K11 VSS@15 (power), K12 VSS@16 (power), K13 VSS (power), K14 MMC1_D2/GP[10] (hiz), L1 EM_A[13] (hiz), L2 EM_A[10] (hiz), L3 USB_VDD1P3@1 (hiz), L4 EM_D[4] (hiz), L5 CVDD (power), L6 EMU0 (hiz), L7 TDI, L8 TMS, L9 MMC0_D0/I2S0_DX/GP[2] (hiz), L10 MMC0_CLK/I2S0_CLK/GP[0] (hiz), L11 DVDDIO@1 (hiz), L12 VSS@17 (hiz), L13 VSS@18 (hiz), L14 CVDD@3 (hiz), M1 VSS@19 (hiz), M2 DVDDIO@2 (hiz), M3 VSS@20, M4 EM_CS3, M5 MMC1_D2/GP[10]@1 (hiz), M6 TCK, M7 TDO, M8 XF, M9 TRST, M10 CVDD@4 (hiz), M11 MMC0_CMD/I2S0_FS/GP[1] (hiz), M12 MMC1_D1/I2S1_RX/GP[9] (hiz), M13 MMC1_CLK/I2S1_CLK/GP[6] (hiz), M14 MMC1_D0/2S1_DX/GP[8] (hiz), N1 MMC0_D0/I2S0_DX/GP[2]@1 (hiz), N2 MMC0_D0/I2S0_DX/GP[2]@2, N3 LCD_EN_RDB/, N4 MMC0_CLK/I2S0_CLK/GP[0]@1 (hiz), N5 MMC0_CLK/I2S0_CLK/GP[0]@2 (hiz), N6 LCD_D[1]/SPI_TX (hiz), N7 MMC0_D3/GP[5]@1 (hiz), N8 LCD_D[4]/GP[14] (hiz), N9 MMC0_D2/GP[4]@1 (hiz), N10 LCD_D8]/I2S2_CLK/GP[18]/SPI_CLK (hiz), N11 MMC1_D3/GP[11]@1 (hiz), N12 LCD_D[12]/UART_RTS/GP[28]/I2S3_CLK (hiz), N13 MMC1_CMD/I2S1_FS/GP[7]@1, N14 MMC1_CMD/I2S1_FS/GP[7]@2 (power), P1 EM_DQM1, P2 DVDDEMIF (power), P4 LCD_CS0_E0/ (hiz), P5 LCD_RW_WRB/ (hiz), P6 LCD_D[0]/SPI_RX (hiz), P7 LCD_D[2]/GP[12] (hiz), P8 DVDDIO (power), P9 XF@1 (hiz), P10 LCD_D[7]/GP[17] (hiz), P11 LCD_D[9]/I2S2_FS/GP[19]/SPI_CS0 (hiz), P12 MMC0_D1/I2S0_RX/GP[3]@1 (hiz), P13 MMC0_D1/I2S0_RX/GP[3]@2 (hiz), P14 LCD_D[15]/UART_TXD/GP[31]/I2S3_DX (hiz)

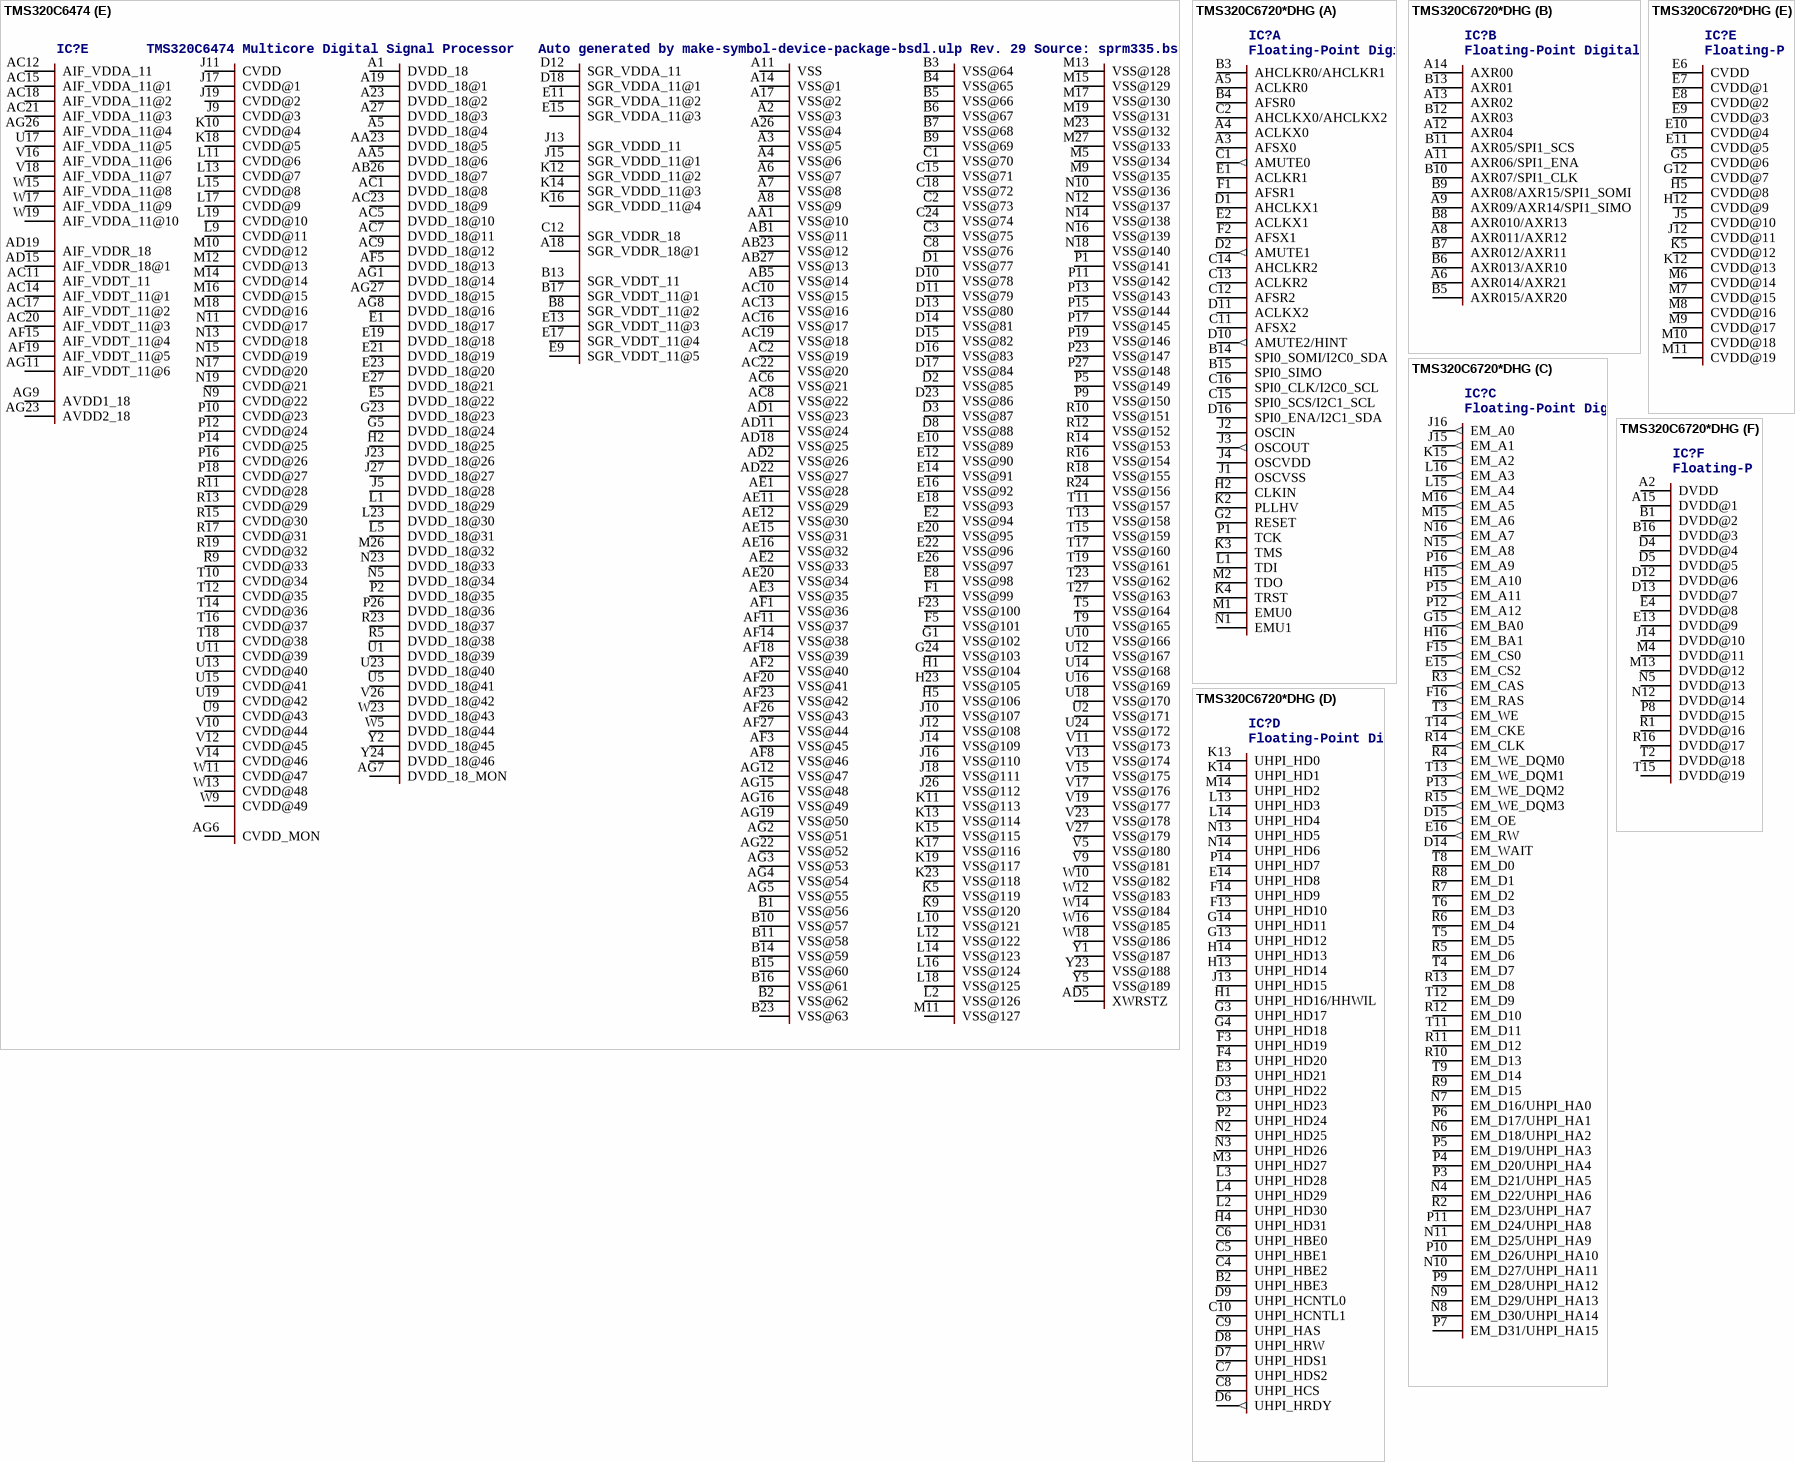
[diagram p24: symbols TMS320C6474 to TMS320C6720*DHG]